# Altium schematic symbol library dungvh03-CERN_Logic.SchLib: 486 symbols (part 11 of 54)
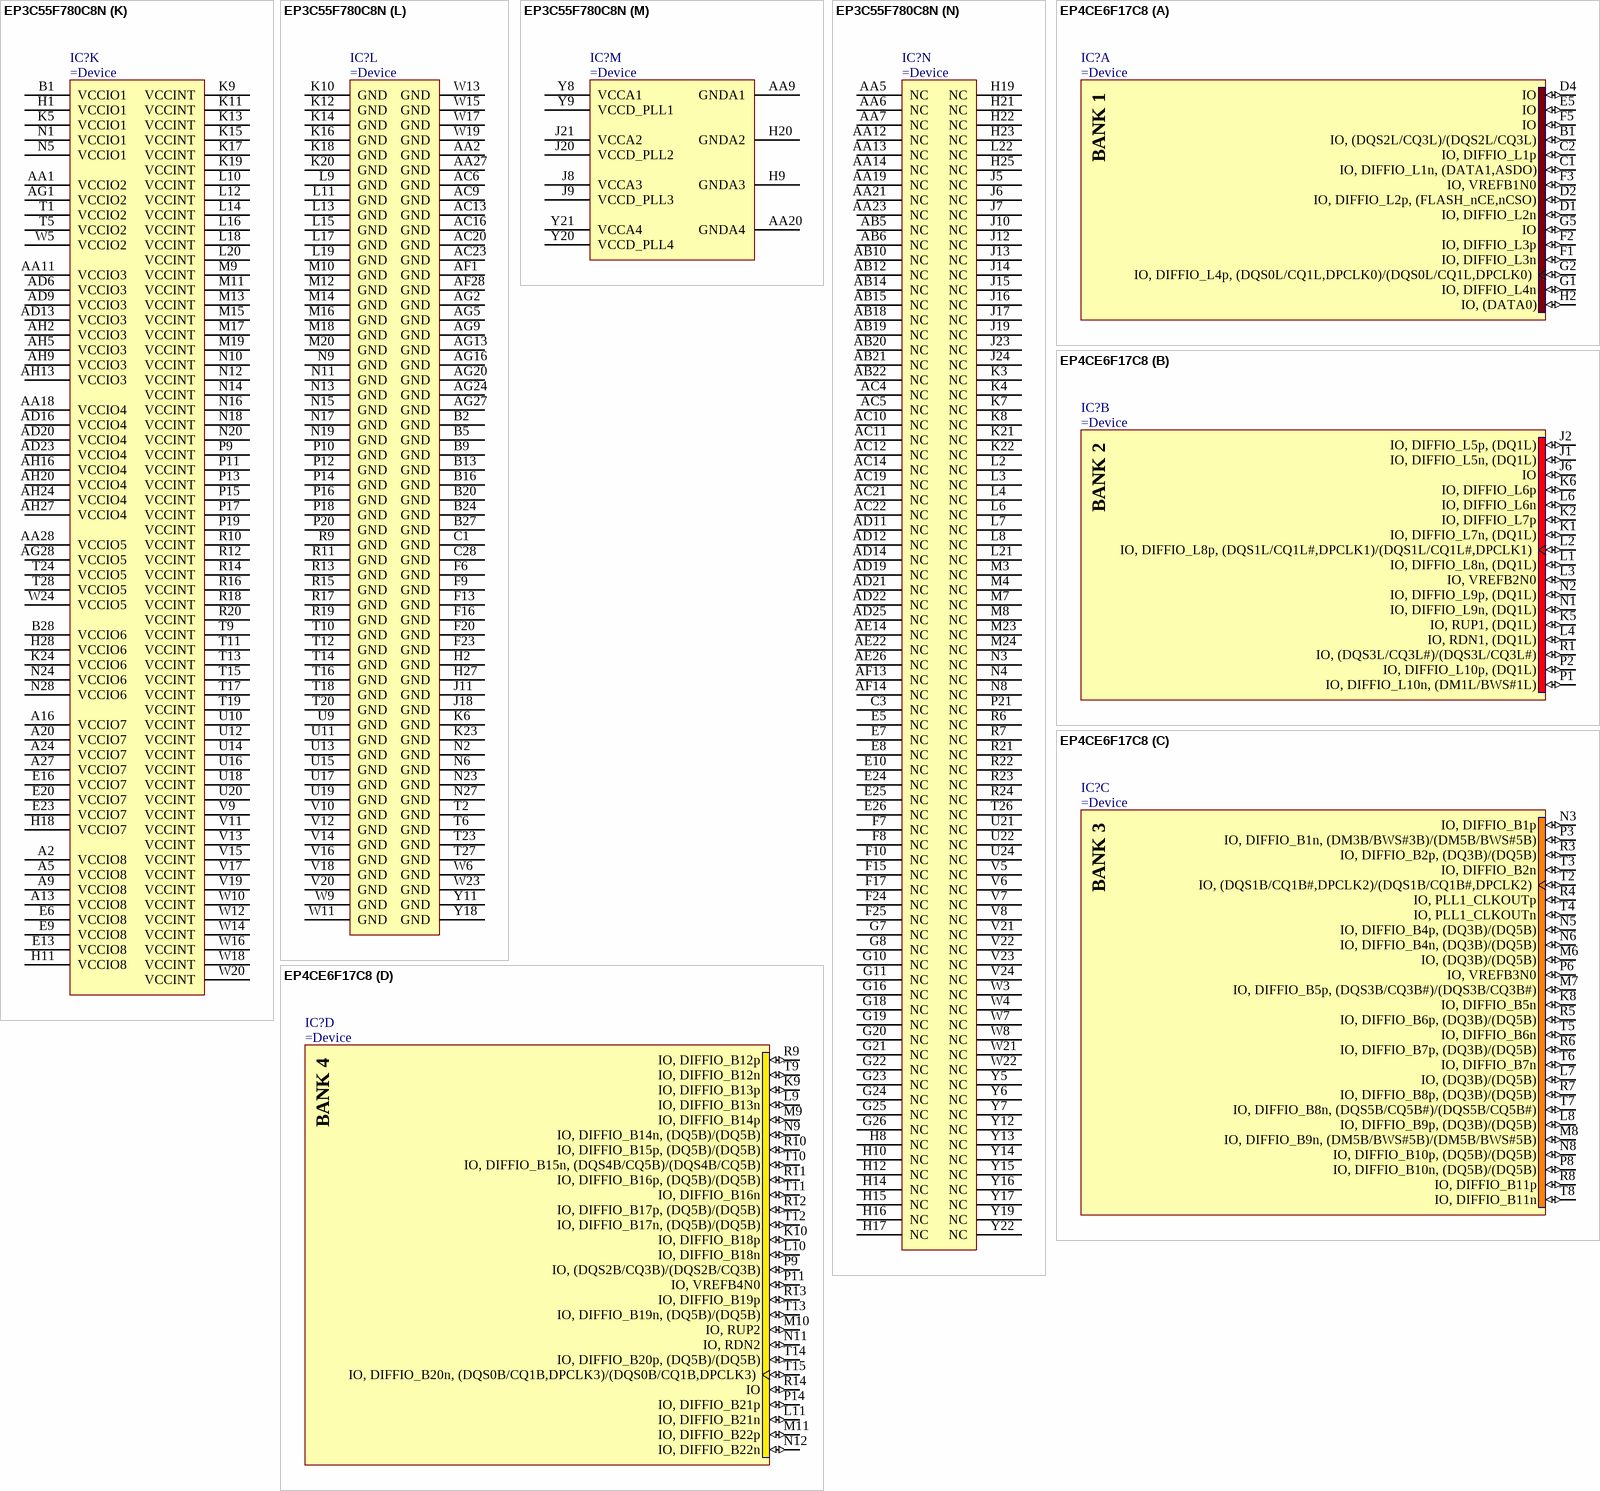
[diagram p271: symbols EP3C55F780C8N to EP4CE6F17C8]

## EP3C55F780C8N
designator IC?
Cyclone III Family FPGA, 55,856 LEs, 377 User I/Os, 780-Pin FBGA, Speed Grade 8, Commercial Grade, Pb-Free
footprint FBGA780-2 (BGA, 780-Leads, Body 29x29mm, Pitch 1mm)
part A pins: C2 IO, DIFFIO_L1n, (DQ2L)/(DQ1L)/(DQ1L) (io), D1 IO, DIFFIO_L2n, (DQ2L)/(DQ1L)/(DQ1L) (io), D2 IO, DIFFIO_L2p, (DQ2L)/(DQ1L)/(DQ1L) (io), D3 IO, DIFFIO_L1p (io), E1 IO, DIFFIO_L8n, _/(DQ1L)/(DQ1L) (io), E2 IO, DIFFIO_L8p, (FLASH_nCE, nCSO) (io), E3 IO, DIFFIO_L4p, (DQS2L/CQ3L,CDPCLK0)/(DQS2L/CQ3L,CDPCLK0)/(DQS2L/CQ3L,CDPCLK0) (io), F1 IO, DIFFIO_L9n, (DQ0L)/(DQ1L)/(DQ1L) (io), F2 IO, DIFFIO_L9p, (DM2L)/(DM1L0/BWS#1L0)/(DM1L0/BWS#1L0) (io), F3 IO, DIFFIO_L4n, (DQ2L)/(DQ1L)/(DQ1L) (io), F4 IO, DIFFIO_L5n, (DATA1, ASDO) (io), F5 IO, DIFFIO_L5p, (DQ2L)/(DQ1L)/(DQ1L) (io), G1 IO, DIFFIO_L11n (io), G2 IO, DIFFIO_L11p, (DQ0L)/(DQ1L)/(DQ1L) (io), G3 IO, DIFFIO_L6n (io), G4 IO, DIFFIO_L6p, (DQ2L)/(DQ1L)/(DQ1L) (io), G5 IO, DIFFIO_L3n, (DQ2L)/(DQ1L)/(DQ1L) (io), G6 IO, DIFFIO_L3p, (nRESET), (DQ2L)/(DQ1L)/(DQ1L) (io), H3 IO, DIFFIO_L7n (io), H4 IO, DIFFIO_L7p (io), H5 IO (io), H6 IO (io), H7 IO, VREFB1N0 (io), J3 IO, DIFFIO_L10n, (DQ0L)/(DQ1L)/(DQ1L) (io), J4 IO, DIFFIO_L10p (io), K1 IO, DIFFIO_L12n, (DQ0L)/(DQ1L)/(DQ1L) (io), K2 IO, DIFFIO_L12p, (DQS0L/CQ1L,DPCLK0)/(DQS0L/CQ1L,DPCLK0)/(DQS0L/CQ1L,DPCLK0) (io), L1 IO, DIFFIO_L13n, (DQ0L)/(DQ1L)/(DQ1L) (io), L5 IO, VREFB1N1 (io), M1 IO, DIFFIO_L14n, (DQ0L)/(DQ1L)/(DQ1L) (io), M2 IO, DIFFIO_L14p (io), M5 IO, DIFFIO_L13p (io), N7 IO, (DATA0) (io), P1 IO, DIFFIO_L15n, (DQ0L)/(DQ1L)/(DQ1L) (io), P2 IO, DIFFIO_L15p (io)
part B pins: AA3 IO, DIFFIO_L31n (io), AA4 IO, DIFFIO_L31p, (DQ3L)/(DQ3L)/(DQ1L) (io), AB1 IO, DIFFIO_L23n (io), AB2 IO, DIFFIO_L23p, (DQS1L/CQ1L#,DPCLK1)/(DQS1L/CQ1L#,DPCLK1)/(DQS1L/CQ1L#,DPCLK1) (io), AB3 IO, (DQ3L)/(DQ3L)/(DQ1L) (io), AB4 IO, DIFFIO_L32n (io), AC1 IO, DIFFIO_L27n, (DQ3L)/(DQ3L)/(DQ1L) (io), AC2 IO, DIFFIO_L27p, (DQ3L)/(DQ3L)/(DQ1L) (io), AC3 IO, DIFFIO_L28p, (DQ3L)/(DQ3L)/(DQ1L) (io), AD1 IO, DIFFIO_L29n (io), AD2 IO, DIFFIO_L29p, (DQ3L)/(DQ3L)/(DQ1L) (io), AD3 IO, DIFFIO_L28n (io), AE1 IO, DIFFIO_L33n (io), AE2 IO, DIFFIO_L32p, (DQ3L)/(DQ3L)/(DQ1L) (io), AE3 IO, (DQS3L/CQ3L#,CDPCLK1)/(DQS3L/CQ3L#,CDPCLK1)/(DQS3L/CQ3L#,CDPCLK1) (io), AF2 IO, DIFFIO_L33p, (DM3L/BWS#3L)/(DM3L1/BWS#3L1)/(DM1L3/BWS#1L3) (io), R1 IO, DIFFIO_L16n, _/(DQ1L)/(DQ1L) (io), R2 IO, DIFFIO_L16p, (DQ0L)/(DQ1L)/(DQ1L) (io), R3 IO, DIFFIO_L18p, (DQ1L)/(DQ3L)/(DQ1L) (io), R4 IO, DIFFIO_L18n, (DQ1L)/(DQ3L)/(DQ1L) (io), R5 IO, (DQ1L)/(DQ3L)/(DQ1L) (io), T3 IO, DIFFIO_L19n (io), T4 IO, DIFFIO_L19p, (DQ1L)/(DQ3L)/(DQ1L) (io), T7 IO, VREFB2N0 (io), T8 IO, VREFB2N1 (io), U1 IO, DIFFIO_L20n, (DQ1L)/(DQ3L)/(DQ1L) (io), U2 IO, DIFFIO_L20p (io), U3 IO, DIFFIO_L17p, (DM0L)/(DM1L1/BWS#1L1)/(DM1L1/BWS#1L1) (io), U4 IO, DIFFIO_L17n (io), U5 IO, DIFFIO_L25n (io), U6 IO, DIFFIO_L25p, (DQ3L)/(DQ3L)/(DQ1L) (io), U7 IO, RUP1 (io), U8 IO, RDN1 (io), V1 IO, DIFFIO_L22n, (DQ1L)/(DQ3L)/(DQ1L) (io), V2 IO, DIFFIO_L22p, (DQ1L)/(DQ3L)/(DQ1L) (io), V3 IO, DIFFIO_L21n (io), V4 IO, DIFFIO_L21p, (DQ1L)/(DQ3L)/(DQ1L) (io), W1 IO, DIFFIO_L24n, (DM1L/BWS#1L)/(DM3L0/BWS#3L0)/(DM1L2/BWS#1L2) (io), W2 IO, DIFFIO_L24p, (DQ1L)/(DQ3L)/(DQ1L) (io), Y3 IO, DIFFIO_L26n (io), Y4 IO, DIFFIO_L26p, (DQ3L)/(DQ3L)/(DQ1L) (io)
part C pins: AA8 IO, DIFFIO_B11p (io), AA10 IO, DIFFIO_B11n, (DQ3B)/(DQ3B)/(DQ5B) (io), AB7 IO, DIFFIO_B10p (io), AB8 IO, DIFFIO_B8n (io), AB9 IO, DIFFIO_B8p, (DM3B/BWS#3B)/(DM3B1/BWS#3B1)/(DM5B3/BWS#5B3) (io), AB11 IO, VREFB3N0 (io), AB13 IO, DIFFIO_B20n (io), AC7 IO, DIFFIO_B6n (io), AC8 IO, DIFFIO_B10n, (DQ3B)/(DQ3B)/(DQ5B) (io), AD4 IO, DIFFIO_B2p (io), AD5 IO, DIFFIO_B1p (io), AD7 IO, (DQS1B/CQ1B#,CDPCLK2)/(DQS1B/CQ1B#,CDPCLK2)/(DQS1B/CQ1B#,CDPCLK2) (io), AD8 IO, DIFFIO_B6p, (DQ1B)/_/_ (io), AD10 IO, (DQ3B)/(DQ3B)/(DQ5B) (io), AE4 IO, DIFFIO_B3p (io), AE5 IO, PLL1_CLKOUTp (io), AE6 IO, DIFFIO_B1n, (DM1B)/_/_ (io), AE7 IO, DIFFIO_B13p (io), AE8 IO, DIFFIO_B14p (io), AE9 IO, (DQ5B)/(DQ3B)/(DQ5B) (io), AE10 IO, DIFFIO_B15p, (DQS3B/CQ3B#,DPCLK2)/(DQS3B/CQ3B#,DPCLK2)/(DQS3B/CQ3B#,DPCLK2) (io), AE11 IO, DIFFIO_B18p, (DQ5B)/(DQ3B)/(DQ5B) (io), AE12 IO, DIFFIO_B17p, (DQ5B)/(DQ3B)/(DQ5B) (io), AE13 IO, DIFFIO_B20p, (DQ5B)/(DQ3B)/(DQ5B) (io), AF3 IO, DIFFIO_B4n (io), AF4 IO, DIFFIO_B2n, (DQ1B)/_/_ (io), AF5 IO, PLL1_CLKOUTn (io), AF6 IO, (DQ1B)/_/_ (io), AF7 IO, DIFFIO_B13n, (DQ3B)/(DQ3B)/(DQ5B) (io), AF8 IO, DIFFIO_B14n, (DM5B/BWS#5B)/(DM3B0/BWS#3B0)/(DM5B2/BWS#5B2) (io), AF9 IO, (DQ3B)/(DQ3B)/(DQ5B) (io), AF10 IO, DIFFIO_B15n, (DQ5B)/(DQ3B)/(DQ5B) (io), AF11 IO, DIFFIO_B18n, (DQS5B/CQ5B#,DPCLK3)/(DQS5B/CQ5B#,DPCLK3)/(DQS5B/CQ5B#,DPCLK3) (io), AF12 IO, DIFFIO_B17n (io), AG3 IO, DIFFIO_B3n, (DQ1B)/_/_ (io), AG4 IO, DIFFIO_B5p (io), AG6 IO, DIFFIO_B7p, (DQ1B)/_/_ (io), AG7 IO, DIFFIO_B9p, (DQ3B)/(DQ3B)/(DQ5B) (io), AG8 IO, DIFFIO_B12p, (DQ3B)/(DQ3B)/(DQ5B) (io), AG10 IO, DIFFIO_B16p, (DQ5B)/(DQ3B)/(DQ5B) (io), AG11 IO, DIFFIO_B19p, (DQ5B)/(DQ3B)/(DQ5B) (io), AG12 IO, DIFFIO_B21p, (DQ5B)/(DQ3B)/(DQ5B) (io), AH3 IO, DIFFIO_B4p, (DQ1B)/_/_ (io), AH4 IO, DIFFIO_B5n, (DQ1B)/_/_ (io), AH6 IO, DIFFIO_B7n, (DQ1B)/_/_ (io), AH7 IO, DIFFIO_B9n, (DQ3B)/(DQ3B)/(DQ5B) (io), AH8 IO, DIFFIO_B12n, (DQ3B)/(DQ3B)/(DQ5B) (io), AH10 IO, DIFFIO_B16n (io), AH11 IO, DIFFIO_B19n, (DQ5B)/(DQ3B)/(DQ5B) (io), AH12 IO, DIFFIO_B21n (io), Y10 IO, VREFB3N1 (io)
part D pins: AA15 IO, VREFB4N1 (io), AA16 IO, DIFFIO_B25p (io), AA17 IO, RUP2 (io), AB16 IO, DIFFIO_B25n, (DQ4B)/(DQ5B)/(DQ5B) (io), AB17 IO, RDN2 (io), AC15 IO, DIFFIO_B22p, (DM4B)/(DM5B1/BWS#5B1)/(DM5B1/BWS#5B1) (io), AC17 IO, DIFFIO_B29p (io), AC18 IO, VREFB4N0 (io), AD15 IO, DIFFIO_B22n (io), AD17 IO, DIFFIO_B29n, (DQ2B)/(DQ5B)/(DQ5B) (io), AD18 IO, (DQ0B)/_/_ (io), AD24 IO, DIFFIO_B40n (io), AE15 IO, DIFFIO_B23p, _/(DQ5B)/(DQ5B) (io), AE16 IO (io), AE17 IO, DIFFIO_B26p, (DQ4B)/(DQ5B)/(DQ5B) (io), AE18 IO, DIFFIO_B31p, (DQS2B/CQ3B,DPCLK5)/(DQS2B/CQ3B,DPCLK5)/(DQS2B/CQ3B,DPCLK5) (io), AE19 IO, DIFFIO_B34p, (DQ2B)/(DQ5B)/(DQ5B) (io), AE20 IO, DIFFIO_B36p (io), AE21 IO, DIFFIO_B37p, (DQ0B)/_/_ (io), AE23 IO, PLL4_CLKOUTp (io), AE24 IO, DIFFIO_B40p, (DQ0B)/_/_ (io), AE25 IO, DIFFIO_B38p, (DQ0B)/_/_ (io), AF15 IO, DIFFIO_B23n, (DQ4B)/(DQ5B)/(DQ5B) (io), AF16 IO, (DQ4B)/(DQ5B)/(DQ5B) (io), AF17 IO, DIFFIO_B26n, (DQS4B/CQ5B,DPCLK4)/(DQS4B/CQ5B,DPCLK4)/(DQS4B/CQ5B,DPCLK4) (io), AF18 IO, DIFFIO_B31n (io), AF19 IO, DIFFIO_B34n (io), AF20 IO, DIFFIO_B36n, (DQ0B)/_/_ (io), AF21 IO, DIFFIO_B37n (io), AF22 IO, (DQ0B)/_/_ (io), AF23 IO, PLL4_CLKOUTn (io), AF24 IO, DIFFIO_B35p, (DQ2B)/(DQ5B)/(DQ5B) (io), AF25 IO, DIFFIO_B35n, (DM0B)/(DQ5B)/(DQ5B) (io), AF26 IO, DIFFIO_B38n, (DQS0B/CQ1B,CDPCLK3)/(DQS0B/CQ1B,CDPCLK3)/(DQS0B/CQ1B,CDPCLK3) (io), AG17 IO, DIFFIO_B24p, (DQ4B)/(DQ5B)/(DQ5B) (io), AG18 IO, DIFFIO_B27p, (DQ4B)/(DQ5B)/(DQ5B) (io), AG19 IO, DIFFIO_B28p (io), AG21 IO, DIFFIO_B30p, (DQ2B)/(DQ5B)/(DQ5B) (io), AG22 IO, DIFFIO_B32p, (DQ2B)/(DQ5B)/(DQ5B) (io), AG23 IO, DIFFIO_B33p (io), AG25 IO, DIFFIO_B39p (io), AG26 IO, DIFFIO_B41p, (DQ0B)/_/_ (io), AH17 IO, DIFFIO_B24n, (DQ4B)/(DQ5B)/(DQ5B) (io), AH18 IO, DIFFIO_B27n, (DQ4B)/(DQ5B)/(DQ5B) (io), AH19 IO, DIFFIO_B28n, (DM2B)/(DM5B0/BWS#5B0)/(DM5B0/BWS#5B0) (io), AH21 IO, DIFFIO_B30n, (DQ2B)/(DQ5B)/(DQ5B) (io), AH22 IO, DIFFIO_B32n, (DQ2B)/(DQ5B)/(DQ5B) (io), AH23 IO, DIFFIO_B33n, (DQ2B)/(DQ5B)/(DQ5B) (io), AH25 IO, DIFFIO_B39n, (DQ0B)/_/_ (io), AH26 IO, DIFFIO_B41n (io)
part E pins: AA22 IO, RUP3 (io), AA24 IO, VREFB5N1 (io), AA25 IO, DIFFIO_R29p (io), AA26 IO, DIFFIO_R29n, (DQ3R)/(DQ3R)/(DQ1R) (io), AB23 IO, RDN3 (io), AB24 IO, (DM3R/BWS#3R)/(DM3R1/BWS#3R1)/(DM1R3/BWS#1R3) (io), AB25 IO, DIFFIO_R30p (io), AB26 IO, DIFFIO_R30n, (DQ3R)/(DQ3R)/(DQ1R) (io), AB27 IO, DIFFIO_R28p, (DQ1R)/(DQ3R)/(DQ1R) (io), AB28 IO, DIFFIO_R28n, (DM1R/BWS#1R)/(DM3R0/BWS#3R0)/(DM1R2/BWS#1R2) (io), AC24 IO, DIFFIO_R36p (io), AC25 IO, DIFFIO_R36n (io), AC26 IO, DIFFIO_R35p (io), AC27 IO, DIFFIO_R31p, (DQ3R)/(DQ3R)/(DQ1R) (io), AC28 IO, DIFFIO_R31n, (DQ3R)/(DQ3R)/(DQ1R) (io), AD26 IO, DIFFIO_R35n, (DQ3R)/(DQ3R)/(DQ1R) (io), AD27 IO, DIFFIO_R33p, (DQ3R)/(DQ3R)/(DQ1R) (io), AD28 IO, DIFFIO_R33n, (DQ3R)/(DQ3R)/(DQ1R) (io), AE27 IO, DIFFIO_R34p (io), AE28 IO, DIFFIO_R34n, (DQ3R)/(DQ3R)/(DQ1R) (io), AF27 IO, (DQS3R/CQ3R#,CDPCLK4)/(DQS3R/CQ3R#,CDPCLK4)/(DQS3R/CQ3R#,CDPCLK4) (io), R25 IO, DIFFIO_R19p (io), R26 IO, DIFFIO_R19n, (DQ1R)/(DQ3R)/(DQ1R) (io), R27 IO, DIFFIO_R18p, _/(DQ1R)/(DQ1R) (io), R28 IO, DIFFIO_R18n, (DM0R)/(DM1R1/BWS#1R1)/(DM1R1/BWS#1R1) (io), T21 IO, DIFFIO_R20p, (DEV_CLRn) (io), T22 IO, DIFFIO_R20n, (DEV_OE) (io), T25 IO, DIFFIO_R21p, (DQS1R/CQ1R#,DPCLK6)/(DQS1R/CQ1R#,DPCLK6)/(DQS1R/CQ1R#,DPCLK6) (io), U23 IO, VREFB5N0 (io), U25 IO, DIFFIO_R22p (io), U26 IO, DIFFIO_R22n (io), U27 IO (io), U28 IO, DIFFIO_R21n, (DQ1R)/(DQ3R)/(DQ1R) (io), V25 IO, DIFFIO_R23p, (DQ1R)/(DQ3R)/(DQ1R) (io), V26 IO, DIFFIO_R23n (io), V27 IO, DIFFIO_R24p (io), V28 IO, DIFFIO_R24n, (DQ1R)/(DQ3R)/(DQ1R) (io), W25 IO, DIFFIO_R26p (io), W26 IO, DIFFIO_R26n, (DQ1R)/(DQ3R)/(DQ1R) (io), W27 IO, DIFFIO_R25n, (DQ1R)/(DQ3R)/(DQ1R) (io), W28 IO, DIFFIO_R25p, (DQ1R)/(DQ3R)/(DQ1R) (io), Y23 IO, DIFFIO_R32p (io), Y24 IO, DIFFIO_R32n, (DQ3R)/(DQ3R)/(DQ1R) (io), Y25 IO, DIFFIO_R27p (io), Y26 IO, DIFFIO_R27n, (DQ1R)/(DQ3R)/(DQ1R) (io)
part F pins: C27 IO, DIFFIO_R2n, (PADD20), (DQS2R/CQ3R,CDPCLK5)/(DQS2R/CQ3R,CDPCLK5)/(DQS2R/CQ3R,CDPCLK5) (io), D26 IO, DIFFIO_R2p (io), D27 IO, DIFFIO_R3p, (PADD21), (DQ2R)/(DQ1R)/(DQ1R) (io), D28 IO, DIFFIO_R3n, (PADD22) (io), E27 IO, DIFFIO_R5p, (DQ2R)/(DQ1R)/(DQ1R) (io), E28 IO, DIFFIO_R5n, (PADD23), (DQ2R)/(DQ1R)/(DQ1R) (io), F26 IO, DIFFIO_R4p, (DQ2R)/(DQ1R)/(DQ1R) (io), F27 IO, DIFFIO_R6p (io), F28 IO, DIFFIO_R6n, (nAVD), (DQ2R)/(DQ1R)/(DQ1R) (io), G27 IO, DIFFIO_R8p, (nOE), (DQ2R)/(DQ1R)/(DQ1R) (io), G28 IO, DIFFIO_R8n, (nWE), (DQ2R)/(DQ1R)/(DQ1R) (io), H24 IO, DIFFIO_R1n (io), H26 IO, DIFFIO_R4n (io), J22 IO, DIFFIO_R1p (io), J25 IO, DIFFIO_R9p, _/(DQ1R)/(DQ1R) (io), J26 IO, DIFFIO_R9n (io), K25 IO, DIFFIO_R7p (io), K26 IO, DIFFIO_R7n, (DQ2R)/(DQ1R)/(DQ1R) (io), K27 IO, DIFFIO_R10p, (DQ0R)/(DQ1R)/(DQ1R) (io), K28 IO, DIFFIO_R10n, (DQ0R)/(DQ1R)/(DQ1R) (io), L23 IO, DIFFIO_R11p (io), L24 IO, DIFFIO_R11n, (DQ0R)/(DQ1R)/(DQ1R) (io), L25 IO (io), L26 IO, (DM2R)/(DM1R0/BWS#1R0)/(DM1R0/BWS#1R0) (io), L27 IO, DIFFIO_R12p, (DQ0R)/(DQ1R)/(DQ1R) (io), L28 IO, DIFFIO_R12n, (DQ0R)/(DQ1R)/(DQ1R) (io), M21 IO, VREFB6N0 (io), M25 IO, DIFFIO_R13p (io), M26 IO, DIFFIO_R13n, (DQ0R)/(DQ1R)/(DQ1R) (io), M27 IO, DIFFIO_R14p, (DQ0R)/(DQ1R)/(DQ1R) (io), M28 IO, DIFFIO_R14n, (DQ0R)/(DQ1R)/(DQ1R) (io), N21 IO, VREFB6N1 (io), N25 IO, DIFFIO_R15p (io), N26 IO, DIFFIO_R15n, (DQS0R/CQ1R,DPCLK7)/(DQS0R/CQ1R,DPCLK7)/(DQS0R/CQ1R,DPCLK7) (io), P25 IO, DIFFIO_R17p, (CRC_ERROR) (io), P26 IO, DIFFIO_R17n, (INIT_DONE) (io), P27 IO, DIFFIO_R16p, (CLKUSR) (io), P28 IO, DIFFIO_R16n, (nCEO) (io)
part G pins: A17 IO, DIFFIO_T24n, (PADD11), _/(DQ5T)/(DQ5T) (io), A18 IO, DIFFIO_T26n, (PADD7) (io), A19 IO, DIFFIO_T27n, (PADD5), (DQ4T)/(DQ5T)/(DQ5T) (io), A21 IO, DIFFIO_T33n, (DQ2T)/(DQ5T)/(DQ5T) (io), A22 IO, DIFFIO_T34n, (DQ2T)/(DQ5T)/(DQ5T) (io), A23 IO, DIFFIO_T37n, (DQ0T)/_/_ (io), A25 IO, DIFFIO_T40p, (DQS0T/CQ1T,CDPCLK6)/(DQS0T/CQ1T,CDPCLK6)/(DQS0T/CQ1T,CDPCLK6) (io), A26 IO, DIFFIO_T40n, (DQ0T)/_/_ (io), B17 IO, DIFFIO_T24p, (PADD12), (DQS4T/CQ5T,DPCLK9)/(DQS4T/CQ5T,DPCLK9)/(DQS4T/CQ5T,DPCLK9) (io), B18 IO, DIFFIO_T26p, (PADD8), (DQ4T)/(DQ5T)/(DQ5T) (io), B19 IO, DIFFIO_T27p, (PADD6), (DQ4T)/(DQ5T)/(DQ5T) (io), B21 IO, DIFFIO_T33p, (DQ2T)/(DQ5T)/(DQ5T) (io), B22 IO, DIFFIO_T34p, (PADD0) (io), B23 IO, DIFFIO_T37p, (DM0T)/_/_ (io), B25 IO, (DQ0T)/_/_ (io), B26 IO, DIFFIO_T42p, (DQ0T)/_/_ (io), C15 IO, DIFFIO_T23n, (PADD13) (io), C16 IO, DIFFIO_T25n, (PADD9), (DQ4T)/(DQ5T)/(DQ5T) (io), C17 IO, DIFFIO_T28n, (PADD3), (DQ4T)/(DQ5T)/(DQ5T) (io), C18 IO, DIFFIO_T31n, (PADD1), _/(DQ5T)/(DQ5T) (io), C19 IO, DIFFIO_T29n, (DQ4T)/(DQ5T)/(DQ5T) (io), C20 IO, DIFFIO_T30n, (DM2T)/(DM5T0/BWS#5T0)/(DM5T0/BWS#5T0) (io), C21 IO, (DQ2T)/(DQ5T)/(DQ5T) (io), C22 IO, DIFFIO_T35n, (DQ2T)/(DQ5T)/(DQ5T) (io), C23 IO, PLL2_CLKOUTn (io), C24 IO, DIFFIO_T36n, (DQ2T)/(DQ5T)/(DQ5T) (io), C25 IO, DIFFIO_T38p, (DQ0T)/_/_ (io), C26 IO, DIFFIO_T42n (io), D15 IO, DIFFIO_T23p, (PADD14), (DQ5T)/(DQ3T)/(DQ5T) (io), D16 IO, DIFFIO_T25p, (PADD10) (io), D17 IO, DIFFIO_T28p, (PADD4), (DQS2T/CQ3T,DPCLK8)/(DQS2T/CQ3T,DPCLK8)/(DQS2T/CQ3T,DPCLK8) (io), D18 IO, DIFFIO_T31p, (PADD2) (io), D19 IO, DIFFIO_T29p (io), D20 IO, DIFFIO_T30p, (DQ4T)/(DQ5T)/(DQ5T) (io), D21 IO, DIFFIO_T35p, (DQ2T)/(DQ5T)/(DQ5T) (io), D22 IO, DIFFIO_T41n, (DQ0T)/_/_ (io), D23 IO, PLL2_CLKOUTp (io), D24 IO, DIFFIO_T36p (io), D25 IO, DIFFIO_T38n (io), E15 IO, (DM4T)/(DM5T1/BWS#5T1)/(DM5T1/BWS#5T1) (io), E17 IO, (DQ4T)/(DQ5T)/(DQ5T) (io), E18 IO, DIFFIO_T32n, (DQ2T)/(DQ5T)/(DQ5T) (io), E19 IO, RDN4 (io), E21 IO, DIFFIO_T39n (io), E22 IO, DIFFIO_T41p, (DQ0T)/_/_ (io), F18 IO, DIFFIO_T32p (io), F19 IO, RUP4 (io), F21 IO, DIFFIO_T39p, (DQ0T)/_/_ (io), F22 IO, VREFB7N0 (io), G15 IO (io), G17 IO, VREFB7N1 (io)
part H pins: A3 IO, DIFFIO_T2p, (DQ1T)/_/_ (io), A4 IO, DIFFIO_T3n, (DQ1T)/_/_ (io), A6 IO, DIFFIO_T10n (io), A7 IO, DIFFIO_T11n, (DQ3T)/(DQ3T)/(DQ5T) (io), A8 IO, DIFFIO_T7n, (DATA9), (DM3T/BWS#3T)/(DM3T1/BWS#3T1)/(DM5T3/BWS#5T3) (io), A10 IO, DIFFIO_T16n, (PADD18) (io), A11 IO, DIFFIO_T17n, (DATA2), (DQ5T)/(DQ3T)/(DQ5T) (io), A12 IO, DIFFIO_T19n, (DQ5T)/(DQ3T)/(DQ5T) (io), B3 IO, DIFFIO_T2n (io), B4 IO, DIFFIO_T3p, (DATA12), (DQS1T/CQ1T#,CDPCLK7)/(DQS1T/CQ1T#,CDPCLK7)/(DQS1T/CQ1T#,CDPCLK7) (io), B6 IO, DIFFIO_T10p, (DATA6), (DQ3T)/(DQ3T)/(DQ5T) (io), B7 IO, DIFFIO_T11p, (DATA5), (DQ3T)/(DQ3T)/(DQ5T) (io), B8 IO, DIFFIO_T7p (io), B10 IO, DIFFIO_T16p, (DATA4), (DM5T/BWS#5T)/(DM3T0/BWS#3T0)/(DM5T2/BWS#5T2) (io), B11 IO, DIFFIO_T17p, (DATA3), (DQ5T)/(DQ3T)/(DQ5T) (io), B12 IO, DIFFIO_T19p (io), C4 IO, DIFFIO_T1n, (DQ1T)/_/_ (io), C5 IO, PLL3_CLKOUTn (io), C6 IO, (DQ1T)/_/_ (io), C7 IO, DIFFIO_T5n, (DATA10), (DQ1T)/_/_ (io), C8 IO, DIFFIO_T6n, (DQ1T)/_/_ (io), C9 IO, DIFFIO_T8n, (DQ3T)/(DQ3T)/(DQ5T) (io), C10 IO, DIFFIO_T14n, (DQ3T)/(DQ3T)/(DQ5T) (io), C11 IO, DIFFIO_T9n, (DATA7), (DQ3T)/(DQ3T)/(DQ5T) (io), C12 IO, DIFFIO_T20n, (PADD16), (DQ5T)/(DQ3T)/(DQ5T) (io), C13 IO, DIFFIO_T22n, (DQ5T)/(DQ3T)/(DQ5T) (io), C14 IO, DIFFIO_T21n, (DQ5T)/(DQ3T)/(DQ5T) (io), D4 IO, DIFFIO_T1p, (DM1T)/_/_ (io), D5 IO, PLL3_CLKOUTp (io), D6 IO, DIFFIO_T4n, (DQ1T)/_/_ (io), D7 IO, DIFFIO_T5p, (DATA11) (io), D8 IO, DIFFIO_T6p, (DQ1T)/_/_ (io), D9 IO, DIFFIO_T8p, (DATA8) (io), D10 IO, DIFFIO_T14p, (DQ3T)/(DQ3T)/(DQ5T) (io), D11 IO, DIFFIO_T9p (io), D12 IO, DIFFIO_T20p, (PADD17), (DQS5T/CQ5T#,DPCLK10)/(DQS5T/CQ5T#,DPCLK10)/(DQS5T/CQ5T#,DPCLK10) (io), D13 IO, DIFFIO_T22p, (DQ5T)/(DQ3T)/(DQ5T) (io), D14 IO, DIFFIO_T21p, (PADD15) (io), E4 IO (io), E11 IO, DIFFIO_T12n, (DQ3T)/(DQ3T)/(DQ5T) (io), E12 IO, DIFFIO_T13n, (DATA14), (DQS3T/CQ3T#,DPCLK11)/(DQS3T/CQ3T#,DPCLK11)/(DQS3T/CQ3T#,DPCLK11) (io), E14 IO, DIFFIO_T18p, (DQ5T)/(DQ3T)/(DQ5T) (io), F11 IO, DIFFIO_T12p (io), F12 IO, DIFFIO_T13p, (DATA13) (io), F14 IO, DIFFIO_T18n (io), G9 IO, DIFFIO_T4p (io), G12 IO, VREFB8N1 (io), G13 IO, DIFFIO_T15n, (PADD19) (io), G14 IO, VREFB8N0 (io), H13 IO, DIFFIO_T15p, (DATA15), (DQ3T)/(DQ3T)/(DQ5T) (io)
part I pins: A14 CLK10, DIFFCLK_4n (in), A15 CLK8, DIFFCLK_5n (in), AG14 CLK15, DIFFCLK_6p (in), AG15 CLK13, DIFFCLK_7p (in), AH14 CLK14, DIFFCLK_6n (in), AH15 CLK12, DIFFCLK_7n (in), B14 CLK11, DIFFCLK_4p (in), B15 CLK9, DIFFCLK_5p (in), J1 CLK1, DIFFCLK_0n (in), J2 CLK0, DIFFCLK_0p (in), J27 CLK4, DIFFCLK_2p (in), J28 CLK5, DIFFCLK_2n (in), Y1 CLK3, DIFFCLK_1n (in), Y2 CLK2, DIFFCLK_1p (in), Y27 CLK6, DIFFCLK_3p (in), Y28 CLK7, DIFFCLK_3n (in)
part J pins: M6 nSTATUS (io), M22 MSEL2 (in), N22 MSEL0 (in), P3 DCLK (io), P4 nCONFIG (in), P5 TCK (in), P6 TDO (out), P7 TDI (in), P8 TMS (in), P22 MSEL3 (in), P23 MSEL1 (in), P24 CONF_DONE (io), R8 nCE (in)
part K pins: A2 VCCIO8 (power), A5 VCCIO8 (power), A9 VCCIO8 (power), A13 VCCIO8 (power), A16 VCCIO7 (power), A20 VCCIO7 (power), A24 VCCIO7 (power), A27 VCCIO7 (power), AA1 VCCIO2 (power), AA11 VCCIO3 (power), AA18 VCCIO4 (power), AA28 VCCIO5 (power), AD6 VCCIO3 (power), AD9 VCCIO3 (power), AD13 VCCIO3 (power), AD16 VCCIO4 (power), AD20 VCCIO4 (power), AD23 VCCIO4 (power), AG1 VCCIO2 (power), AG28 VCCIO5 (power), AH2 VCCIO3 (power), AH5 VCCIO3 (power), AH9 VCCIO3 (power), AH13 VCCIO3 (power), AH16 VCCIO4 (power), AH20 VCCIO4 (power), AH24 VCCIO4 (power), AH27 VCCIO4 (power), B1 VCCIO1 (power), B28 VCCIO6 (power), E6 VCCIO8 (power), E9 VCCIO8 (power), E13 VCCIO8 (power), E16 VCCIO7 (power), E20 VCCIO7 (power), E23 VCCIO7 (power), H1 VCCIO1 (power), H11 VCCIO8 (power), H18 VCCIO7 (power), H28 VCCIO6 (power), K5 VCCIO1 (power), K9 VCCINT (power), K11 VCCINT (power), K13 VCCINT (power), K15 VCCINT (power), K17 VCCINT (power), K19 VCCINT (power), K24 VCCIO6 (power), L10 VCCINT (power), L12 VCCINT (power), L14 VCCINT (power), L16 VCCINT (power), L18 VCCINT (power), L20 VCCINT (power), M9 VCCINT (power), M11 VCCINT (power), M13 VCCINT (power), M15 VCCINT (power), M17 VCCINT (power), M19 VCCINT (power), N1 VCCIO1 (power), N5 VCCIO1 (power), N10 VCCINT (power), N12 VCCINT (power), N14 VCCINT (power), N16 VCCINT (power), N18 VCCINT (power), N20 VCCINT (power), N24 VCCIO6 (power), N28 VCCIO6 (power), P9 VCCINT (power), P11 VCCINT (power), P13 VCCINT (power), P15 VCCINT (power), P17 VCCINT (power), P19 VCCINT (power), R10 VCCINT (power), R12 VCCINT (power), R14 VCCINT (power), R16 VCCINT (power), R18 VCCINT (power), R20 VCCINT (power), T1 VCCIO2 (power), T5 VCCIO2 (power), T9 VCCINT (power), T11 VCCINT (power), T13 VCCINT (power), T15 VCCINT (power), T17 VCCINT (power), T19 VCCINT (power), T24 VCCIO5 (power), T28 VCCIO5 (power), U10 VCCINT (power), U12 VCCINT (power), U14 VCCINT (power), U16 VCCINT (power), U18 VCCINT (power), U20 VCCINT (power), V9 VCCINT (power), V11 VCCINT (power), V13 VCCINT (power), V15 VCCINT (power), V17 VCCINT (power), V19 VCCINT (power), W5 VCCIO2 (power), W10 VCCINT (power), W12 VCCINT (power), W14 VCCINT (power), W16 VCCINT (power), W18 VCCINT (power), W20 VCCINT (power), W24 VCCIO5 (power)
part L pins: AA2 GND (power), AA27 GND (power), AC6 GND (power), AC9 GND (power), AC13 GND (power), AC16 GND (power), AC20 GND (power), AC23 GND (power), AF1 GND (power), AF28 GND (power), AG2 GND (power), AG5 GND (power), AG9 GND (power), AG13 GND (power), AG16 GND (power), AG20 GND (power), AG24 GND (power), AG27 GND (power), B2 GND (power), B5 GND (power), B9 GND (power), B13 GND (power), B16 GND (power), B20 GND (power), B24 GND (power), B27 GND (power), C1 GND (power), C28 GND (power), F6 GND (power), F9 GND (power), F13 GND (power), F16 GND (power), F20 GND (power), F23 GND (power), H2 GND (power), H27 GND (power), J11 GND (power), J18 GND (power), K6 GND (power), K10 GND (power), K12 GND (power), K14 GND (power), K16 GND (power), K18 GND (power), K20 GND (power), K23 GND (power), L9 GND (power), L11 GND (power), L13 GND (power), L15 GND (power), L17 GND (power), L19 GND (power), M10 GND (power), M12 GND (power), M14 GND (power), M16 GND (power), M18 GND (power), M20 GND (power), N2 GND (power), N6 GND (power), N9 GND (power), N11 GND (power), N13 GND (power), N15 GND (power), N17 GND (power), N19 GND (power), N23 GND (power), N27 GND (power), P10 GND (power), P12 GND (power), P14 GND (power), P16 GND (power), P18 GND (power), P20 GND (power), R9 GND (power), R11 GND (power), R13 GND (power), R15 GND (power), R17 GND (power), R19 GND (power), T2 GND (power), T6 GND (power), T10 GND (power), T12 GND (power), T14 GND (power), T16 GND (power), T18 GND (power), T20 GND (power), T23 GND (power), T27 GND (power), U9 GND (power), U11 GND (power), U13 GND (power), U15 GND (power), U17 GND (power), U19 GND (power), V10 GND (power), V12 GND (power), V14 GND (power), V16 GND (power), V18 GND (power), V20 GND (power), W6 GND (power), W9 GND (power), W11 GND (power), W13 GND (power), W15 GND (power), W17 GND (power), W19 GND (power), W23 GND (power), Y11 GND (power), Y18 GND (power)
part M pins: AA9 GNDA1 (power), AA20 GNDA4 (power), H9 GNDA3 (power), H20 GNDA2 (power), J8 VCCA3 (power), J9 VCCD_PLL3 (power), J20 VCCD_PLL2 (power), J21 VCCA2 (power), Y8 VCCA1 (power), Y9 VCCD_PLL1 (power), Y20 VCCD_PLL4 (power), Y21 VCCA4 (power)
part N pins: AA5 NC, AA6 NC, AA7 NC, AA12 NC, AA13 NC, AA14 NC, AA19 NC, AA21 NC, AA23 NC, AB5 NC, AB6 NC, AB10 NC, AB12 NC, AB14 NC, AB15 NC, AB18 NC, AB19 NC, AB20 NC, AB21 NC, AB22 NC, AC4 NC, AC5 NC, AC10 NC, AC11 NC, AC12 NC, AC14 NC, AC19 NC, AC21 NC, AC22 NC, AD11 NC, AD12 NC, AD14 NC, AD19 NC, AD21 NC, AD22 NC, AD25 NC, AE14 NC, AE22 NC, AE26 NC, AF13 NC, AF14 NC, C3 NC, E5 NC, E7 NC, E8 NC, E10 NC, E24 NC, E25 NC, E26 NC, F7 NC, F8 NC, F10 NC, F15 NC, F17 NC, F24 NC, F25 NC, G7 NC, G8 NC, G10 NC, G11 NC, G16 NC, G18 NC, G19 NC, G20 NC, G21 NC, G22 NC, G23 NC, G24 NC, G25 NC, G26 NC, H8 NC, H10 NC, H12 NC, H14 NC, H15 NC, H16 NC, H17 NC, H19 NC, H21 NC, H22 NC, H23 NC, H25 NC, J5 NC, J6 NC, J7 NC, J10 NC, J12 NC, J13 NC, J14 NC, J15 NC, J16 NC, J17 NC, J19 NC, J23 NC, J24 NC, K3 NC, K4 NC, K7 NC, K8 NC, K21 NC, K22 NC, L2 NC, L3 NC, L4 NC, L6 NC, L7 NC, L8 NC, L21 NC, L22 NC, M3 NC, M4 NC, M7 NC, M8 NC, M23 NC, M24 NC, N3 NC, N4 NC, N8 NC, P21 NC, R6 NC, R7 NC, R21 NC, R22 NC, R23 NC, R24 NC, T26 NC, U21 NC, U22 NC, U24 NC, V5 NC, V6 NC, V7 NC, V8 NC, V21 NC, V22 NC, V23 NC, V24 NC, W3 NC, W4 NC, W7 NC, W8 NC, W21 NC, W22 NC, Y5 NC, Y6 NC, Y7 NC, Y12 NC, Y13 NC, Y14 NC, Y15 NC, Y16 NC, Y17 NC, Y19 NC, Y22 NC
part A text: BANK 1
part B text: BANK 2
part C text: BANK 3
part D text: BANK 4
part E text: BANK 5
part F text: BANK 6
part G text: BANK 7
part H text: BANK 8

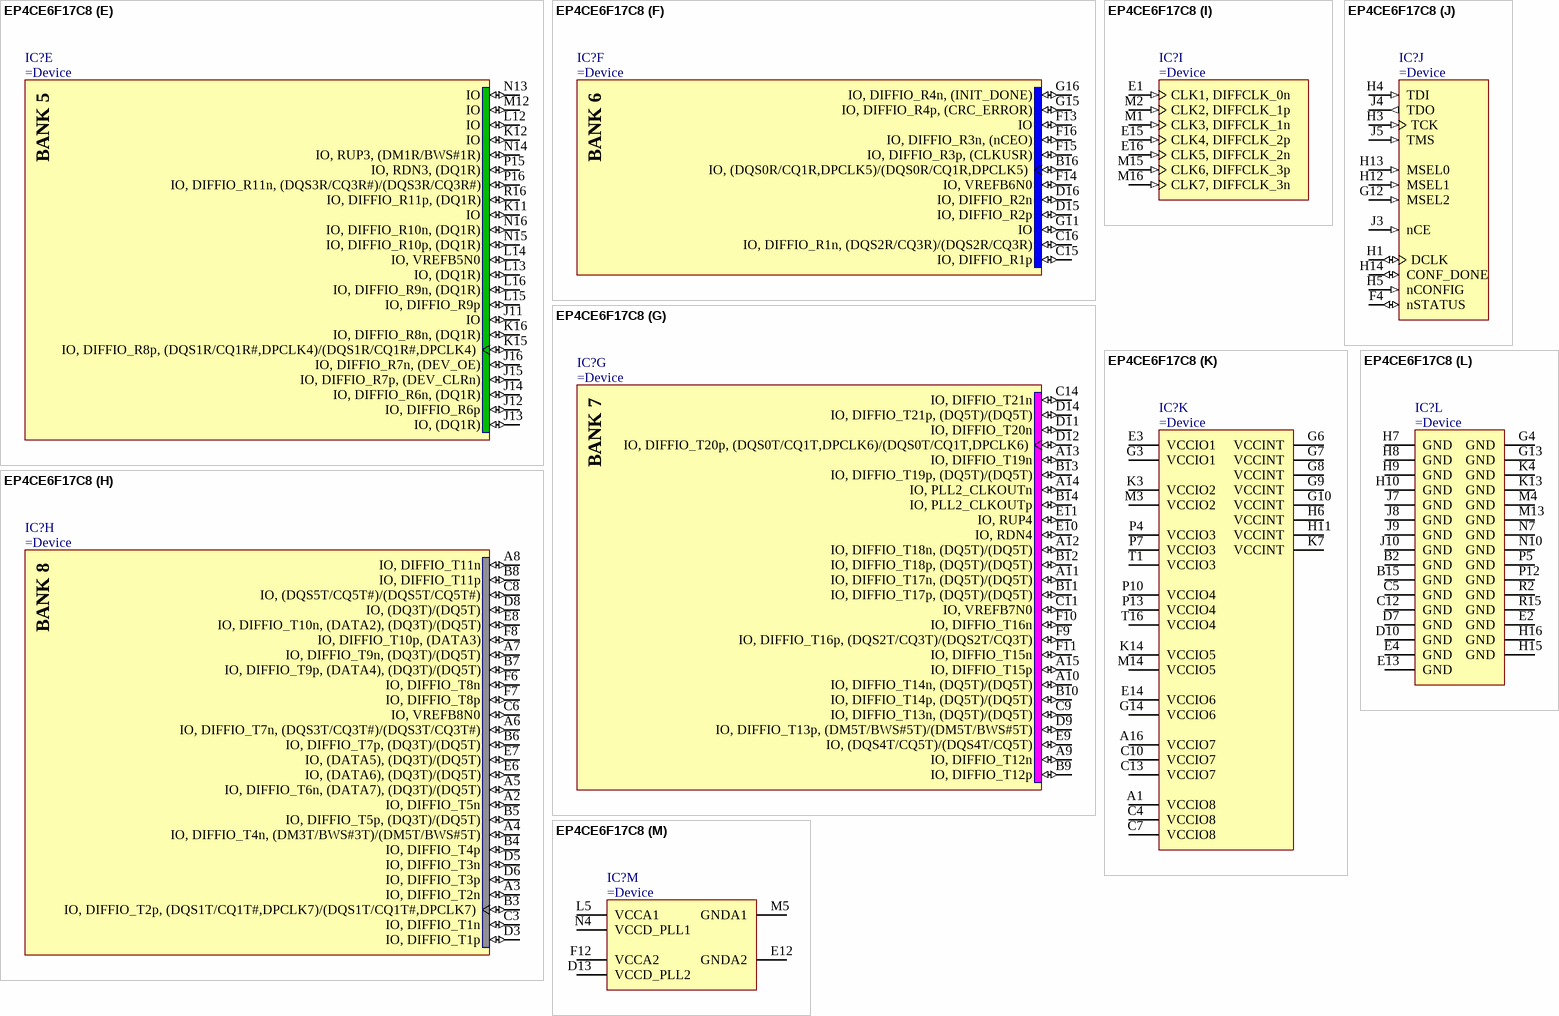
[diagram p62: symbol EP4CE6F17C8]

## EP4CE6F17C8
designator IC?
Cyclone IV E Family, FPGA, 6272 LEs, 179 I/Os, 256-Pin FBGA, Commercial Grade, Speed Grade 8
part A pins: B1 IO, (DQS2L/CQ3L)/(DQS2L/CQ3L) (io), C1 IO, DIFFIO_L1n, (DATA1,ASDO) (io), C2 IO, DIFFIO_L1p (io), D1 IO, DIFFIO_L2n (io), D2 IO, DIFFIO_L2p, (FLASH_nCE,nCSO) (io), D4 IO (io), E5 IO (io), F1 IO, DIFFIO_L3n (io), F2 IO, DIFFIO_L3p (io), F3 IO, VREFB1N0 (io), F5 IO (io), G1 IO, DIFFIO_L4n (io), G2 IO, DIFFIO_L4p, (DQS0L/CQ1L,DPCLK0)/(DQS0L/CQ1L,DPCLK0) (io), G5 IO (io), H2 IO, (DATA0) (io)
part B pins: J1 IO, DIFFIO_L5n, (DQ1L) (io), J2 IO, DIFFIO_L5p, (DQ1L) (io), J6 IO (io), K1 IO, DIFFIO_L7n, (DQ1L) (io), K2 IO, DIFFIO_L7p (io), K5 IO, RUP1, (DQ1L) (io), K6 IO, DIFFIO_L6p (io), L1 IO, DIFFIO_L8n, (DQ1L) (io), L2 IO, DIFFIO_L8p, (DQS1L/CQ1L#,DPCLK1)/(DQS1L/CQ1L#,DPCLK1) (io), L3 IO, VREFB2N0 (io), L4 IO, RDN1, (DQ1L) (io), L6 IO, DIFFIO_L6n (io), N1 IO, DIFFIO_L9n, (DQ1L) (io), N2 IO, DIFFIO_L9p, (DQ1L) (io), P1 IO, DIFFIO_L10n, (DM1L/BWS#1L) (io), P2 IO, DIFFIO_L10p, (DQ1L) (io), R1 IO, (DQS3L/CQ3L#)/(DQS3L/CQ3L#) (io)
part C pins: K8 IO, DIFFIO_B5n (io), L7 IO, (DQ3B)/(DQ5B) (io), L8 IO, DIFFIO_B9p, (DQ3B)/(DQ5B) (io), M6 IO, (DQ3B)/(DQ5B) (io), M7 IO, DIFFIO_B5p, (DQS3B/CQ3B#)/(DQS3B/CQ3B#) (io), M8 IO, DIFFIO_B9n, (DM5B/BWS#5B)/(DM5B/BWS#5B) (io), N3 IO, DIFFIO_B1p (io), N5 IO, DIFFIO_B4p, (DQ3B)/(DQ5B) (io), N6 IO, DIFFIO_B4n, (DQ3B)/(DQ5B) (io), N8 IO, DIFFIO_B10p, (DQ5B)/(DQ5B) (io), P3 IO, DIFFIO_B1n, (DM3B/BWS#3B)/(DM5B/BWS#5B) (io), P6 IO, VREFB3N0 (io), P8 IO, DIFFIO_B10n, (DQ5B)/(DQ5B) (io), R3 IO, DIFFIO_B2p, (DQ3B)/(DQ5B) (io), R4 IO, PLL1_CLKOUTp (io), R5 IO, DIFFIO_B6p, (DQ3B)/(DQ5B) (io), R6 IO, DIFFIO_B7p, (DQ3B)/(DQ5B) (io), R7 IO, DIFFIO_B8p, (DQ3B)/(DQ5B) (io), R8 IO, DIFFIO_B11p (io), T2 IO, (DQS1B/CQ1B#,DPCLK2)/(DQS1B/CQ1B#,DPCLK2) (io), T3 IO, DIFFIO_B2n (io), T4 IO, PLL1_CLKOUTn (io), T5 IO, DIFFIO_B6n (io), T6 IO, DIFFIO_B7n (io), T7 IO, DIFFIO_B8n, (DQS5B/CQ5B#)/(DQS5B/CQ5B#) (io), T8 IO, DIFFIO_B11n (io)
part D pins: K9 IO, DIFFIO_B13p (io), K10 IO, DIFFIO_B18p (io), L9 IO, DIFFIO_B13n (io), L10 IO, DIFFIO_B18n (io), L11 IO, DIFFIO_B21n (io), M9 IO, DIFFIO_B14p (io), M10 IO, RUP2 (io), M11 IO, DIFFIO_B22p (io), N9 IO, DIFFIO_B14n, (DQ5B)/(DQ5B) (io), N11 IO, RDN2 (io), N12 IO, DIFFIO_B22n (io), P9 IO, (DQS2B/CQ3B)/(DQS2B/CQ3B) (io), P11 IO, VREFB4N0 (io), P14 IO, DIFFIO_B21p (io), R9 IO, DIFFIO_B12p (io), R10 IO, DIFFIO_B15p, (DQ5B)/(DQ5B) (io), R11 IO, DIFFIO_B16p, (DQ5B)/(DQ5B) (io), R12 IO, DIFFIO_B17p, (DQ5B)/(DQ5B) (io), R13 IO, DIFFIO_B19p (io), R14 IO (io), T9 IO, DIFFIO_B12n (io), T10 IO, DIFFIO_B15n, (DQS4B/CQ5B)/(DQS4B/CQ5B) (io), T11 IO, DIFFIO_B16n (io), T12 IO, DIFFIO_B17n, (DQ5B)/(DQ5B) (io), T13 IO, DIFFIO_B19n, (DQ5B)/(DQ5B) (io), T14 IO, DIFFIO_B20p, (DQ5B)/(DQ5B) (io), T15 IO, DIFFIO_B20n, (DQS0B/CQ1B,DPCLK3)/(DQS0B/CQ1B,DPCLK3) (io)
part E pins: J11 IO (io), J12 IO, DIFFIO_R6p (io), J13 IO, (DQ1R) (io), J14 IO, DIFFIO_R6n, (DQ1R) (io), J15 IO, DIFFIO_R7p, (DEV_CLRn) (io), J16 IO, DIFFIO_R7n, (DEV_OE) (io), K11 IO (io), K12 IO (io), K15 IO, DIFFIO_R8p, (DQS1R/CQ1R#,DPCLK4)/(DQS1R/CQ1R#,DPCLK4) (io), K16 IO, DIFFIO_R8n, (DQ1R) (io), L12 IO (io), L13 IO, (DQ1R) (io), L14 IO, VREFB5N0 (io), L15 IO, DIFFIO_R9p (io), L16 IO, DIFFIO_R9n, (DQ1R) (io), M12 IO (io), N13 IO (io), N14 IO, RUP3, (DM1R/BWS#1R) (io), N15 IO, DIFFIO_R10p, (DQ1R) (io), N16 IO, DIFFIO_R10n, (DQ1R) (io), P15 IO, RDN3, (DQ1R) (io), P16 IO, DIFFIO_R11n, (DQS3R/CQ3R#)/(DQS3R/CQ3R#) (io), R16 IO, DIFFIO_R11p, (DQ1R) (io)
part F pins: B16 IO, (DQS0R/CQ1R,DPCLK5)/(DQS0R/CQ1R,DPCLK5) (io), C15 IO, DIFFIO_R1p (io), C16 IO, DIFFIO_R1n, (DQS2R/CQ3R)/(DQS2R/CQ3R) (io), D15 IO, DIFFIO_R2p (io), D16 IO, DIFFIO_R2n (io), F13 IO (io), F14 IO, VREFB6N0 (io), F15 IO, DIFFIO_R3p, (CLKUSR) (io), F16 IO, DIFFIO_R3n, (nCEO) (io), G11 IO (io), G15 IO, DIFFIO_R4p, (CRC_ERROR) (io), G16 IO, DIFFIO_R4n, (INIT_DONE) (io)
part G pins: A9 IO, DIFFIO_T12n (io), A10 IO, DIFFIO_T14n, (DQ5T)/(DQ5T) (io), A11 IO, DIFFIO_T17n, (DQ5T)/(DQ5T) (io), A12 IO, DIFFIO_T18n, (DQ5T)/(DQ5T) (io), A13 IO, DIFFIO_T19n (io), A14 IO, PLL2_CLKOUTn (io), A15 IO, DIFFIO_T15p (io), B9 IO, DIFFIO_T12p (io), B10 IO, DIFFIO_T14p, (DQ5T)/(DQ5T) (io), B11 IO, DIFFIO_T17p, (DQ5T)/(DQ5T) (io), B12 IO, DIFFIO_T18p, (DQ5T)/(DQ5T) (io), B13 IO, DIFFIO_T19p, (DQ5T)/(DQ5T) (io), B14 IO, PLL2_CLKOUTp (io), C9 IO, DIFFIO_T13n, (DQ5T)/(DQ5T) (io), C11 IO, VREFB7N0 (io), C14 IO, DIFFIO_T21n (io), D9 IO, DIFFIO_T13p, (DM5T/BWS#5T)/(DM5T/BWS#5T) (io), D11 IO, DIFFIO_T20n (io), D12 IO, DIFFIO_T20p, (DQS0T/CQ1T,DPCLK6)/(DQS0T/CQ1T,DPCLK6) (io), D14 IO, DIFFIO_T21p, (DQ5T)/(DQ5T) (io), E9 IO, (DQS4T/CQ5T)/(DQS4T/CQ5T) (io), E10 IO, RDN4 (io), E11 IO, RUP4 (io), F9 IO, DIFFIO_T16p, (DQS2T/CQ3T)/(DQS2T/CQ3T) (io), F10 IO, DIFFIO_T16n (io), F11 IO, DIFFIO_T15n (io)
part H pins: A2 IO, DIFFIO_T5n (io), A3 IO, DIFFIO_T2n (io), A4 IO, DIFFIO_T4n, (DM3T/BWS#3T)/(DM5T/BWS#5T) (io), A5 IO, DIFFIO_T6n, (DATA7), (DQ3T)/(DQ5T) (io), A6 IO, DIFFIO_T7n, (DQS3T/CQ3T#)/(DQS3T/CQ3T#) (io), A7 IO, DIFFIO_T9n, (DQ3T)/(DQ5T) (io), A8 IO, DIFFIO_T11n (io), B3 IO, DIFFIO_T2p, (DQS1T/CQ1T#,DPCLK7)/(DQS1T/CQ1T#,DPCLK7) (io), B4 IO, DIFFIO_T4p (io), B5 IO, DIFFIO_T5p, (DQ3T)/(DQ5T) (io), B6 IO, DIFFIO_T7p, (DQ3T)/(DQ5T) (io), B7 IO, DIFFIO_T9p, (DATA4), (DQ3T)/(DQ5T) (io), B8 IO, DIFFIO_T11p (io), C3 IO, DIFFIO_T1n (io), C6 IO, VREFB8N0 (io), C8 IO, (DQS5T/CQ5T#)/(DQS5T/CQ5T#) (io), D3 IO, DIFFIO_T1p (io), D5 IO, DIFFIO_T3n (io), D6 IO, DIFFIO_T3p (io), D8 IO, (DQ3T)/(DQ5T) (io), E6 IO, (DATA6), (DQ3T)/(DQ5T) (io), E7 IO, (DATA5), (DQ3T)/(DQ5T) (io), E8 IO, DIFFIO_T10n, (DATA2), (DQ3T)/(DQ5T) (io), F6 IO, DIFFIO_T8n (io), F7 IO, DIFFIO_T8p (io), F8 IO, DIFFIO_T10p, (DATA3) (io)
part I pins: E1 CLK1, DIFFCLK_0n (in), E15 CLK4, DIFFCLK_2p (in), E16 CLK5, DIFFCLK_2n (in), M1 CLK3, DIFFCLK_1n (in), M2 CLK2, DIFFCLK_1p (in), M15 CLK6, DIFFCLK_3p (in), M16 CLK7, DIFFCLK_3n (in)
part J pins: F4 nSTATUS (io), G12 MSEL2 (in), H1 DCLK (io), H3 TCK (in), H4 TDI (in), H5 nCONFIG (in), H12 MSEL1 (in), H13 MSEL0 (in), H14 CONF_DONE (io), J3 nCE (in), J4 TDO (out), J5 TMS (in)
part K pins: A1 VCCIO8 (power), A16 VCCIO7 (power), C4 VCCIO8 (power), C7 VCCIO8 (power), C10 VCCIO7 (power), C13 VCCIO7 (power), E3 VCCIO1 (power), E14 VCCIO6 (power), G3 VCCIO1 (power), G6 VCCINT (power), G7 VCCINT (power), G8 VCCINT (power), G9 VCCINT (power), G10 VCCINT (power), G14 VCCIO6 (power), H6 VCCINT (power), H11 VCCINT (power), K3 VCCIO2 (power), K7 VCCINT (power), K14 VCCIO5 (power), M3 VCCIO2 (power), M14 VCCIO5 (power), P4 VCCIO3 (power), P7 VCCIO3 (power), P10 VCCIO4 (power), P13 VCCIO4 (power), T1 VCCIO3 (power), T16 VCCIO4 (power)
part L pins: B2 GND (power), B15 GND (power), C5 GND (power), C12 GND (power), D7 GND (power), D10 GND (power), E2 GND (power), E4 GND (power), E13 GND (power), G4 GND (power), G13 GND (power), H7 GND (power), H8 GND (power), H9 GND (power), H10 GND (power), H15 GND (power), H16 GND (power), J7 GND (power), J8 GND (power), J9 GND (power), J10 GND (power), K4 GND (power), K13 GND (power), M4 GND (power), M13 GND (power), N7 GND (power), N10 GND (power), P5 GND (power), P12 GND (power), R2 GND (power), R15 GND (power)
part M pins: D13 VCCD_PLL2 (power), E12 GNDA2 (power), F12 VCCA2 (power), L5 VCCA1 (power), M5 GNDA1 (power), N4 VCCD_PLL1 (power)
part A text: BANK 1
part B text: BANK 2
part C text: BANK 3
part D text: BANK 4
part E text: BANK 5
part F text: BANK 6
part G text: BANK 7
part H text: BANK 8

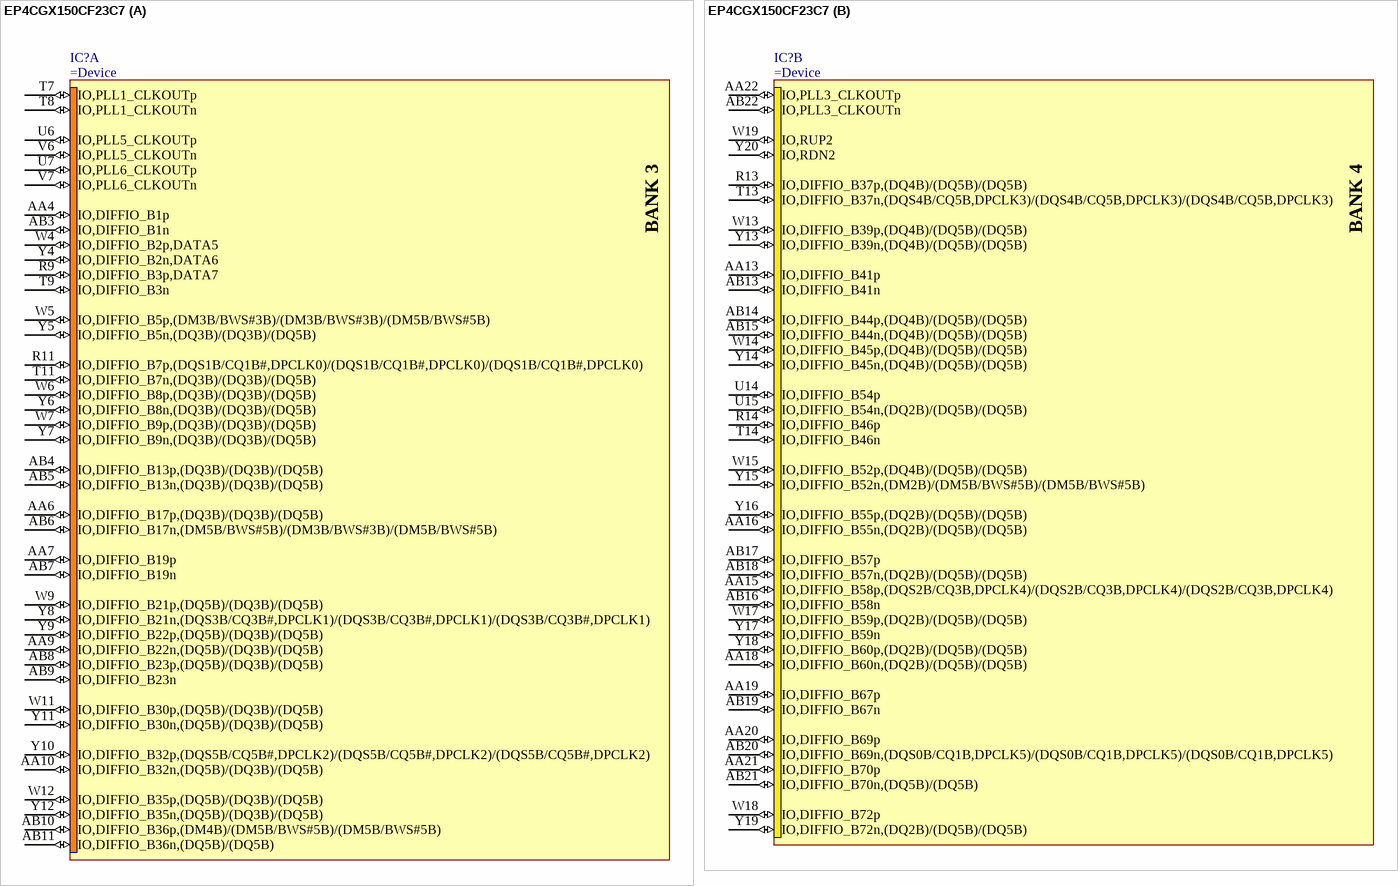
[diagram p63: symbol EP4CGX150CF23C7]

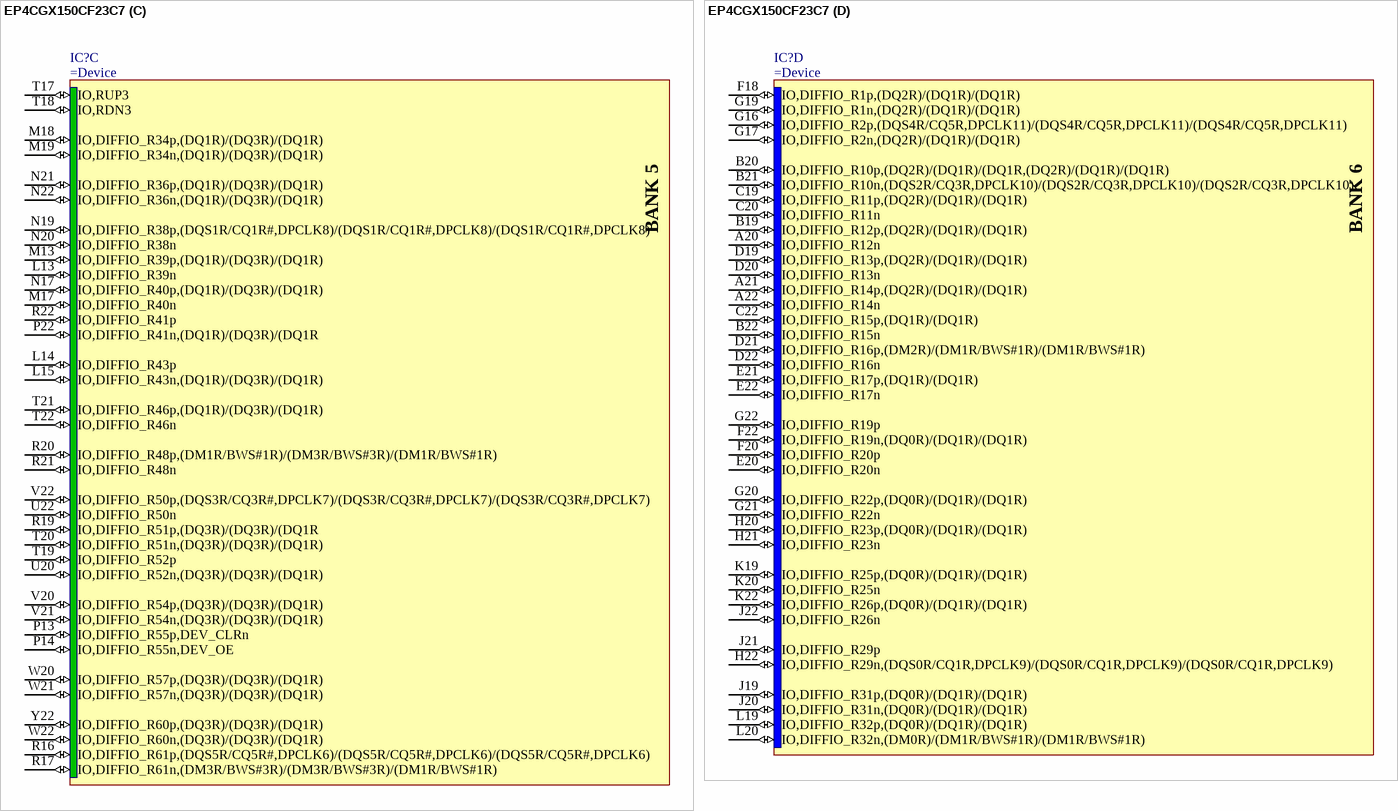
[diagram p64: symbol EP4CGX150CF23C7]

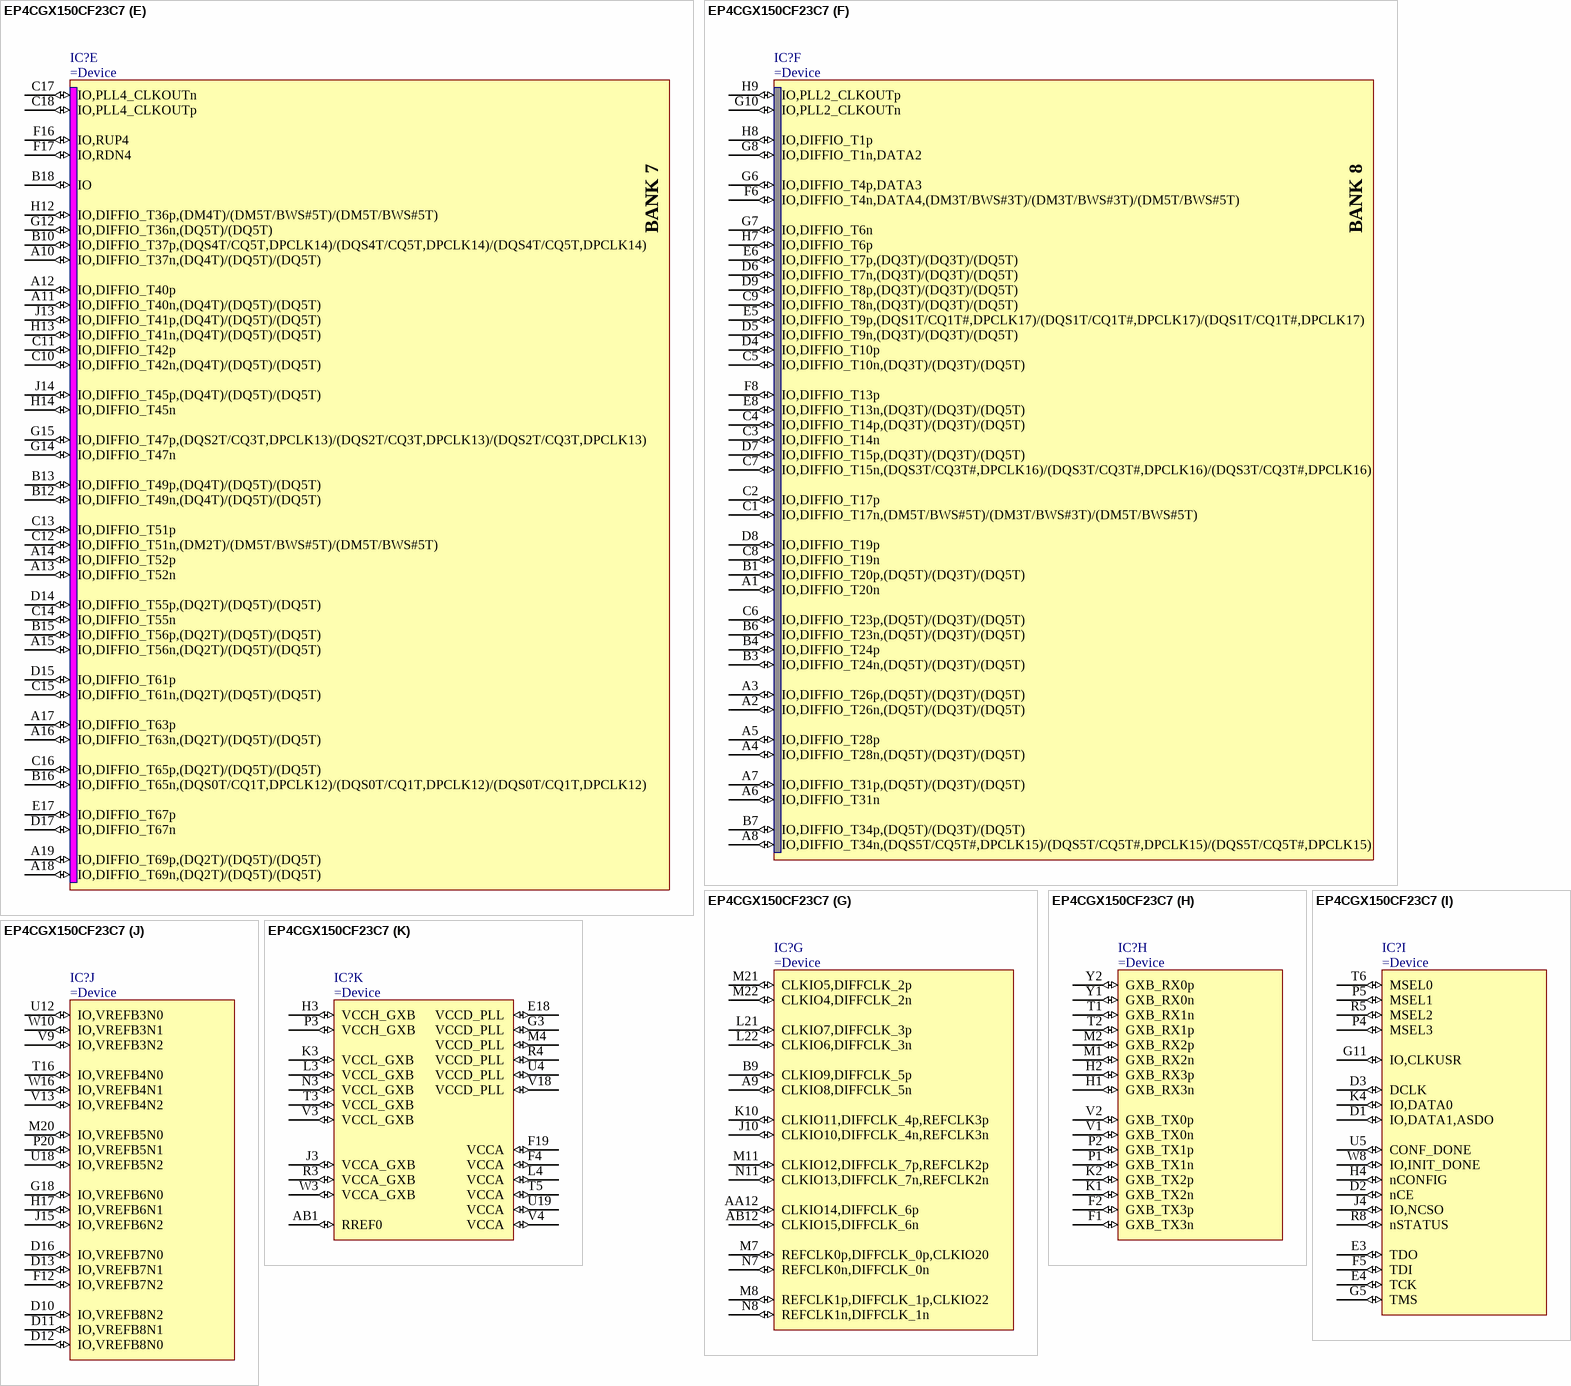
[diagram p65: symbol EP4CGX150CF23C7]

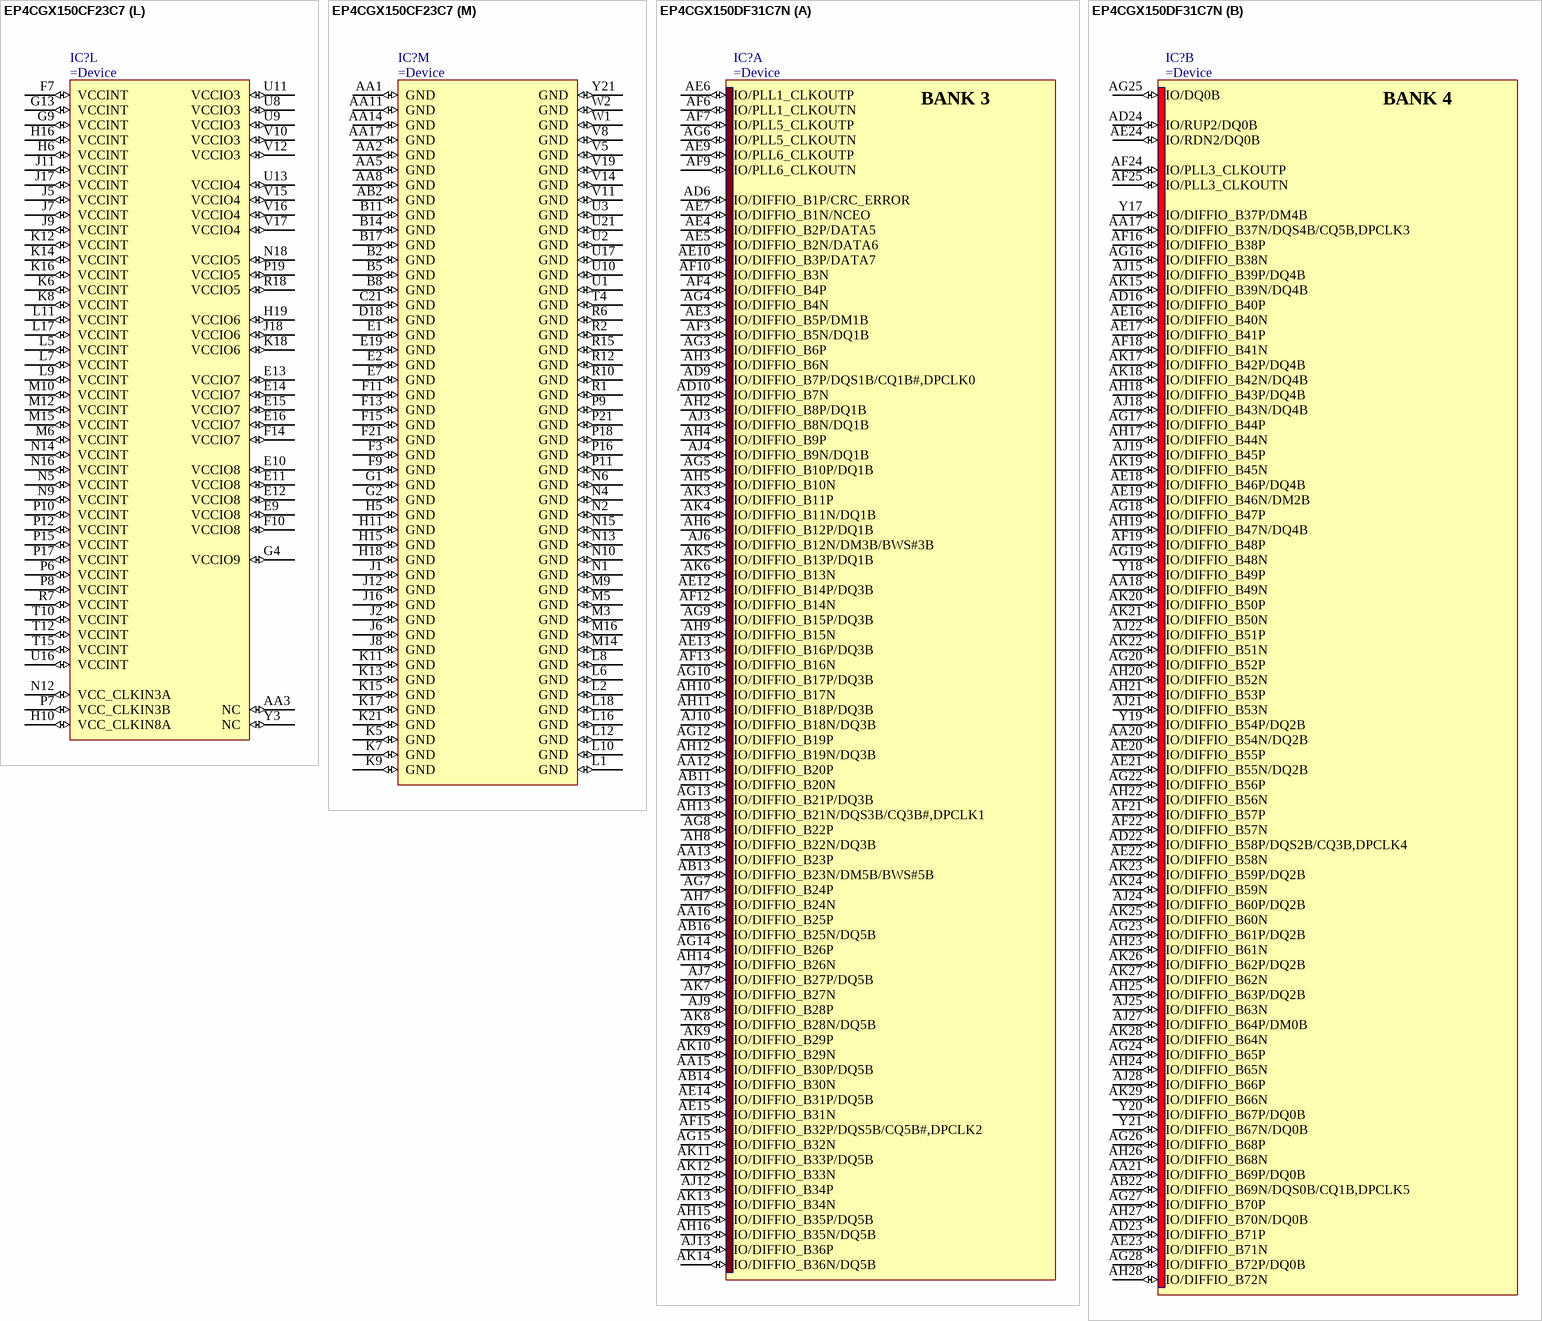
[diagram p66: symbols EP4CGX150CF23C7 to EP4CGX150DF31C7N]

## EP4CGX150CF23C7
designator IC?
Cyclone IV Family FPGA, 1.2V, 270 I/O Pins, 8 PLLs, 8 High-Speed Transceivers, 484-Pin FBGA, Speed Grade 7, Commercial Grade
part A pins: AA4 IO,DIFFIO_B1p (io), AA6 IO,DIFFIO_B17p,(DQ3B)/(DQ3B)/(DQ5B) (io), AA7 IO,DIFFIO_B19p (io), AA9 IO,DIFFIO_B22n,(DQ5B)/(DQ3B)/(DQ5B) (io), AA10 IO,DIFFIO_B32n,(DQ5B)/(DQ3B)/(DQ5B) (io), AB3 IO,DIFFIO_B1n (io), AB4 IO,DIFFIO_B13p,(DQ3B)/(DQ3B)/(DQ5B) (io), AB5 IO,DIFFIO_B13n,(DQ3B)/(DQ3B)/(DQ5B) (io), AB6 IO,DIFFIO_B17n,(DM5B/BWS#5B)/(DM3B/BWS#3B)/(DM5B/BWS#5B) (io), AB7 IO,DIFFIO_B19n (io), AB8 IO,DIFFIO_B23p,(DQ5B)/(DQ3B)/(DQ5B) (io), AB9 IO,DIFFIO_B23n (io), AB10 IO,DIFFIO_B36p,(DM4B)/(DM5B/BWS#5B)/(DM5B/BWS#5B) (io), AB11 IO,DIFFIO_B36n,(DQ5B)/(DQ5B) (io), R9 IO,DIFFIO_B3p,DATA7 (io), R11 IO,DIFFIO_B7p,(DQS1B/CQ1B#,DPCLK0)/(DQS1B/CQ1B#,DPCLK0)/(DQS1B/CQ1B#,DPCLK0) (io), T7 IO,PLL1_CLKOUTp (io), T8 IO,PLL1_CLKOUTn (io), T9 IO,DIFFIO_B3n (io), T11 IO,DIFFIO_B7n,(DQ3B)/(DQ3B)/(DQ5B) (io), U6 IO,PLL5_CLKOUTp (io), U7 IO,PLL6_CLKOUTp (io), V6 IO,PLL5_CLKOUTn (io), V7 IO,PLL6_CLKOUTn (io), W4 IO,DIFFIO_B2p,DATA5 (io), W5 IO,DIFFIO_B5p,(DM3B/BWS#3B)/(DM3B/BWS#3B)/(DM5B/BWS#5B) (io), W6 IO,DIFFIO_B8p,(DQ3B)/(DQ3B)/(DQ5B) (io), W7 IO,DIFFIO_B9p,(DQ3B)/(DQ3B)/(DQ5B) (io), W9 IO,DIFFIO_B21p,(DQ5B)/(DQ3B)/(DQ5B) (io), W11 IO,DIFFIO_B30p,(DQ5B)/(DQ3B)/(DQ5B) (io), W12 IO,DIFFIO_B35p,(DQ5B)/(DQ3B)/(DQ5B) (io), Y4 IO,DIFFIO_B2n,DATA6 (io), Y5 IO,DIFFIO_B5n,(DQ3B)/(DQ3B)/(DQ5B) (io), Y6 IO,DIFFIO_B8n,(DQ3B)/(DQ3B)/(DQ5B) (io), Y7 IO,DIFFIO_B9n,(DQ3B)/(DQ3B)/(DQ5B) (io), Y8 IO,DIFFIO_B21n,(DQS3B/CQ3B#,DPCLK1)/(DQS3B/CQ3B#,DPCLK1)/(DQS3B/CQ3B#,DPCLK1) (io), Y9 IO,DIFFIO_B22p,(DQ5B)/(DQ3B)/(DQ5B) (io), Y10 IO,DIFFIO_B32p,(DQS5B/CQ5B#,DPCLK2)/(DQS5B/CQ5B#,DPCLK2)/(DQS5B/CQ5B#,DPCLK2) (io), Y11 IO,DIFFIO_B30n,(DQ5B)/(DQ3B)/(DQ5B) (io), Y12 IO,DIFFIO_B35n,(DQ5B)/(DQ3B)/(DQ5B) (io)
part B pins: AA13 IO,DIFFIO_B41p (io), AA15 IO,DIFFIO_B58p,(DQS2B/CQ3B,DPCLK4)/(DQS2B/CQ3B,DPCLK4)/(DQS2B/CQ3B,DPCLK4) (io), AA16 IO,DIFFIO_B55n,(DQ2B)/(DQ5B)/(DQ5B) (io), AA18 IO,DIFFIO_B60n,(DQ2B)/(DQ5B)/(DQ5B) (io), AA19 IO,DIFFIO_B67p (io), AA20 IO,DIFFIO_B69p (io), AA21 IO,DIFFIO_B70p (io), AA22 IO,PLL3_CLKOUTp (io), AB13 IO,DIFFIO_B41n (io), AB14 IO,DIFFIO_B44p,(DQ4B)/(DQ5B)/(DQ5B) (io), AB15 IO,DIFFIO_B44n,(DQ4B)/(DQ5B)/(DQ5B) (io), AB16 IO,DIFFIO_B58n (io), AB17 IO,DIFFIO_B57p (io), AB18 IO,DIFFIO_B57n,(DQ2B)/(DQ5B)/(DQ5B) (io), AB19 IO,DIFFIO_B67n (io), AB20 IO,DIFFIO_B69n,(DQS0B/CQ1B,DPCLK5)/(DQS0B/CQ1B,DPCLK5)/(DQS0B/CQ1B,DPCLK5) (io), AB21 IO,DIFFIO_B70n,(DQ5B)/(DQ5B) (io), AB22 IO,PLL3_CLKOUTn (io), R13 IO,DIFFIO_B37p,(DQ4B)/(DQ5B)/(DQ5B) (io), R14 IO,DIFFIO_B46p (io), T13 IO,DIFFIO_B37n,(DQS4B/CQ5B,DPCLK3)/(DQS4B/CQ5B,DPCLK3)/(DQS4B/CQ5B,DPCLK3) (io), T14 IO,DIFFIO_B46n (io), U14 IO,DIFFIO_B54p (io), U15 IO,DIFFIO_B54n,(DQ2B)/(DQ5B)/(DQ5B) (io), W13 IO,DIFFIO_B39p,(DQ4B)/(DQ5B)/(DQ5B) (io), W14 IO,DIFFIO_B45p,(DQ4B)/(DQ5B)/(DQ5B) (io), W15 IO,DIFFIO_B52p,(DQ4B)/(DQ5B)/(DQ5B) (io), W17 IO,DIFFIO_B59p,(DQ2B)/(DQ5B)/(DQ5B) (io), W18 IO,DIFFIO_B72p (io), W19 IO,RUP2 (io), Y13 IO,DIFFIO_B39n,(DQ4B)/(DQ5B)/(DQ5B) (io), Y14 IO,DIFFIO_B45n,(DQ4B)/(DQ5B)/(DQ5B) (io), Y15 IO,DIFFIO_B52n,(DM2B)/(DM5B/BWS#5B)/(DM5B/BWS#5B) (io), Y16 IO,DIFFIO_B55p,(DQ2B)/(DQ5B)/(DQ5B) (io), Y17 IO,DIFFIO_B59n (io), Y18 IO,DIFFIO_B60p,(DQ2B)/(DQ5B)/(DQ5B) (io), Y19 IO,DIFFIO_B72n,(DQ2B)/(DQ5B)/(DQ5B) (io), Y20 IO,RDN2 (io)
part C pins: L13 IO,DIFFIO_R39n (io), L14 IO,DIFFIO_R43p (io), L15 IO,DIFFIO_R43n,(DQ1R)/(DQ3R)/(DQ1R) (io), M13 IO,DIFFIO_R39p,(DQ1R)/(DQ3R)/(DQ1R) (io), M17 IO,DIFFIO_R40n (io), M18 IO,DIFFIO_R34p,(DQ1R)/(DQ3R)/(DQ1R) (io), M19 IO,DIFFIO_R34n,(DQ1R)/(DQ3R)/(DQ1R) (io), N17 IO,DIFFIO_R40p,(DQ1R)/(DQ3R)/(DQ1R) (io), N19 IO,DIFFIO_R38p,(DQS1R/CQ1R#,DPCLK8)/(DQS1R/CQ1R#,DPCLK8)/(DQS1R/CQ1R#,DPCLK8) (io), N20 IO,DIFFIO_R38n (io), N21 IO,DIFFIO_R36p,(DQ1R)/(DQ3R)/(DQ1R) (io), N22 IO,DIFFIO_R36n,(DQ1R)/(DQ3R)/(DQ1R) (io), P13 IO,DIFFIO_R55p,DEV_CLRn (io), P14 IO,DIFFIO_R55n,DEV_OE (io), P22 IO,DIFFIO_R41n,(DQ1R)/(DQ3R)/(DQ1R (io), R16 IO,DIFFIO_R61p,(DQS5R/CQ5R#,DPCLK6)/(DQS5R/CQ5R#,DPCLK6)/(DQS5R/CQ5R#,DPCLK6) (io), R17 IO,DIFFIO_R61n,(DM3R/BWS#3R)/(DM3R/BWS#3R)/(DM1R/BWS#1R) (io), R19 IO,DIFFIO_R51p,(DQ3R)/(DQ3R)/(DQ1R (io), R20 IO,DIFFIO_R48p,(DM1R/BWS#1R)/(DM3R/BWS#3R)/(DM1R/BWS#1R) (io), R21 IO,DIFFIO_R48n (io), R22 IO,DIFFIO_R41p (io), T17 IO,RUP3 (io), T18 IO,RDN3 (io), T19 IO,DIFFIO_R52p (io), T20 IO,DIFFIO_R51n,(DQ3R)/(DQ3R)/(DQ1R) (io), T21 IO,DIFFIO_R46p,(DQ1R)/(DQ3R)/(DQ1R) (io), T22 IO,DIFFIO_R46n (io), U20 IO,DIFFIO_R52n,(DQ3R)/(DQ3R)/(DQ1R) (io), U22 IO,DIFFIO_R50n (io), V20 IO,DIFFIO_R54p,(DQ3R)/(DQ3R)/(DQ1R) (io), V21 IO,DIFFIO_R54n,(DQ3R)/(DQ3R)/(DQ1R) (io), V22 IO,DIFFIO_R50p,(DQS3R/CQ3R#,DPCLK7)/(DQS3R/CQ3R#,DPCLK7)/(DQS3R/CQ3R#,DPCLK7) (io), W20 IO,DIFFIO_R57p,(DQ3R)/(DQ3R)/(DQ1R) (io), W21 IO,DIFFIO_R57n,(DQ3R)/(DQ3R)/(DQ1R) (io), W22 IO,DIFFIO_R60n,(DQ3R)/(DQ3R)/(DQ1R) (io), Y22 IO,DIFFIO_R60p,(DQ3R)/(DQ3R)/(DQ1R) (io)
part D pins: A20 IO,DIFFIO_R12n (io), A21 IO,DIFFIO_R14p,(DQ2R)/(DQ1R)/(DQ1R) (io), A22 IO,DIFFIO_R14n (io), B19 IO,DIFFIO_R12p,(DQ2R)/(DQ1R)/(DQ1R) (io), B20 IO,DIFFIO_R10p,(DQ2R)/(DQ1R)/(DQ1R,(DQ2R)/(DQ1R)/(DQ1R) (io), B21 IO,DIFFIO_R10n,(DQS2R/CQ3R,DPCLK10)/(DQS2R/CQ3R,DPCLK10)/(DQS2R/CQ3R,DPCLK10) (io), B22 IO,DIFFIO_R15n (io), C19 IO,DIFFIO_R11p,(DQ2R)/(DQ1R)/(DQ1R) (io), C20 IO,DIFFIO_R11n (io), C22 IO,DIFFIO_R15p,(DQ1R)/(DQ1R) (io), D19 IO,DIFFIO_R13p,(DQ2R)/(DQ1R)/(DQ1R) (io), D20 IO,DIFFIO_R13n (io), D21 IO,DIFFIO_R16p,(DM2R)/(DM1R/BWS#1R)/(DM1R/BWS#1R) (io), D22 IO,DIFFIO_R16n (io), E20 IO,DIFFIO_R20n (io), E21 IO,DIFFIO_R17p,(DQ1R)/(DQ1R) (io), E22 IO,DIFFIO_R17n (io), F18 IO,DIFFIO_R1p,(DQ2R)/(DQ1R)/(DQ1R) (io), F20 IO,DIFFIO_R20p (io), F22 IO,DIFFIO_R19n,(DQ0R)/(DQ1R)/(DQ1R) (io), G16 IO,DIFFIO_R2p,(DQS4R/CQ5R,DPCLK11)/(DQS4R/CQ5R,DPCLK11)/(DQS4R/CQ5R,DPCLK11) (io), G17 IO,DIFFIO_R2n,(DQ2R)/(DQ1R)/(DQ1R) (io), G19 IO,DIFFIO_R1n,(DQ2R)/(DQ1R)/(DQ1R) (io), G20 IO,DIFFIO_R22p,(DQ0R)/(DQ1R)/(DQ1R) (io), G21 IO,DIFFIO_R22n (io), G22 IO,DIFFIO_R19p (io), H20 IO,DIFFIO_R23p,(DQ0R)/(DQ1R)/(DQ1R) (io), H21 IO,DIFFIO_R23n (io), H22 IO,DIFFIO_R29n,(DQS0R/CQ1R,DPCLK9)/(DQS0R/CQ1R,DPCLK9)/(DQS0R/CQ1R,DPCLK9) (io), J19 IO,DIFFIO_R31p,(DQ0R)/(DQ1R)/(DQ1R) (io), J20 IO,DIFFIO_R31n,(DQ0R)/(DQ1R)/(DQ1R) (io), J21 IO,DIFFIO_R29p (io), J22 IO,DIFFIO_R26n (io), K19 IO,DIFFIO_R25p,(DQ0R)/(DQ1R)/(DQ1R) (io), K20 IO,DIFFIO_R25n (io), K22 IO,DIFFIO_R26p,(DQ0R)/(DQ1R)/(DQ1R) (io), L19 IO,DIFFIO_R32p,(DQ0R)/(DQ1R)/(DQ1R) (io), L20 IO,DIFFIO_R32n,(DM0R)/(DM1R/BWS#1R)/(DM1R/BWS#1R) (io)
part E pins: A10 IO,DIFFIO_T37n,(DQ4T)/(DQ5T)/(DQ5T) (io), A11 IO,DIFFIO_T40n,(DQ4T)/(DQ5T)/(DQ5T) (io), A12 IO,DIFFIO_T40p (io), A13 IO,DIFFIO_T52n (io), A14 IO,DIFFIO_T52p (io), A15 IO,DIFFIO_T56n,(DQ2T)/(DQ5T)/(DQ5T) (io), A16 IO,DIFFIO_T63n,(DQ2T)/(DQ5T)/(DQ5T) (io), A17 IO,DIFFIO_T63p (io), A18 IO,DIFFIO_T69n,(DQ2T)/(DQ5T)/(DQ5T) (io), A19 IO,DIFFIO_T69p,(DQ2T)/(DQ5T)/(DQ5T) (io), B10 IO,DIFFIO_T37p,(DQS4T/CQ5T,DPCLK14)/(DQS4T/CQ5T,DPCLK14)/(DQS4T/CQ5T,DPCLK14) (io), B12 IO,DIFFIO_T49n,(DQ4T)/(DQ5T)/(DQ5T) (io), B13 IO,DIFFIO_T49p,(DQ4T)/(DQ5T)/(DQ5T) (io), B15 IO,DIFFIO_T56p,(DQ2T)/(DQ5T)/(DQ5T) (io), B16 IO,DIFFIO_T65n,(DQS0T/CQ1T,DPCLK12)/(DQS0T/CQ1T,DPCLK12)/(DQS0T/CQ1T,DPCLK12) (io), B18 IO (io), C10 IO,DIFFIO_T42n,(DQ4T)/(DQ5T)/(DQ5T) (io), C11 IO,DIFFIO_T42p (io), C12 IO,DIFFIO_T51n,(DM2T)/(DM5T/BWS#5T)/(DM5T/BWS#5T) (io), C13 IO,DIFFIO_T51p (io), C14 IO,DIFFIO_T55n (io), C15 IO,DIFFIO_T61n,(DQ2T)/(DQ5T)/(DQ5T) (io), C16 IO,DIFFIO_T65p,(DQ2T)/(DQ5T)/(DQ5T) (io), C17 IO,PLL4_CLKOUTn (io), C18 IO,PLL4_CLKOUTp (io), D14 IO,DIFFIO_T55p,(DQ2T)/(DQ5T)/(DQ5T) (io), D15 IO,DIFFIO_T61p (io), D17 IO,DIFFIO_T67n (io), E17 IO,DIFFIO_T67p (io), F16 IO,RUP4 (io), F17 IO,RDN4 (io), G12 IO,DIFFIO_T36n,(DQ5T)/(DQ5T) (io), G14 IO,DIFFIO_T47n (io), G15 IO,DIFFIO_T47p,(DQS2T/CQ3T,DPCLK13)/(DQS2T/CQ3T,DPCLK13)/(DQS2T/CQ3T,DPCLK13) (io), H12 IO,DIFFIO_T36p,(DM4T)/(DM5T/BWS#5T)/(DM5T/BWS#5T) (io), H13 IO,DIFFIO_T41n,(DQ4T)/(DQ5T)/(DQ5T) (io), H14 IO,DIFFIO_T45n (io), J13 IO,DIFFIO_T41p,(DQ4T)/(DQ5T)/(DQ5T) (io), J14 IO,DIFFIO_T45p,(DQ4T)/(DQ5T)/(DQ5T) (io)
part F pins: A1 IO,DIFFIO_T20n (io), A2 IO,DIFFIO_T26n,(DQ5T)/(DQ3T)/(DQ5T) (io), A3 IO,DIFFIO_T26p,(DQ5T)/(DQ3T)/(DQ5T) (io), A4 IO,DIFFIO_T28n,(DQ5T)/(DQ3T)/(DQ5T) (io), A5 IO,DIFFIO_T28p (io), A6 IO,DIFFIO_T31n (io), A7 IO,DIFFIO_T31p,(DQ5T)/(DQ3T)/(DQ5T) (io), A8 IO,DIFFIO_T34n,(DQS5T/CQ5T#,DPCLK15)/(DQS5T/CQ5T#,DPCLK15)/(DQS5T/CQ5T#,DPCLK15) (io), B1 IO,DIFFIO_T20p,(DQ5T)/(DQ3T)/(DQ5T) (io), B3 IO,DIFFIO_T24n,(DQ5T)/(DQ3T)/(DQ5T) (io), B4 IO,DIFFIO_T24p (io), B6 IO,DIFFIO_T23n,(DQ5T)/(DQ3T)/(DQ5T) (io), B7 IO,DIFFIO_T34p,(DQ5T)/(DQ3T)/(DQ5T) (io), C1 IO,DIFFIO_T17n,(DM5T/BWS#5T)/(DM3T/BWS#3T)/(DM5T/BWS#5T) (io), C2 IO,DIFFIO_T17p (io), C3 IO,DIFFIO_T14n (io), C4 IO,DIFFIO_T14p,(DQ3T)/(DQ3T)/(DQ5T) (io), C5 IO,DIFFIO_T10n,(DQ3T)/(DQ3T)/(DQ5T) (io), C6 IO,DIFFIO_T23p,(DQ5T)/(DQ3T)/(DQ5T) (io), C7 IO,DIFFIO_T15n,(DQS3T/CQ3T#,DPCLK16)/(DQS3T/CQ3T#,DPCLK16)/(DQS3T/CQ3T#,DPCLK16) (io), C8 IO,DIFFIO_T19n (io), C9 IO,DIFFIO_T8n,(DQ3T)/(DQ3T)/(DQ5T) (io), D4 IO,DIFFIO_T10p (io), D5 IO,DIFFIO_T9n,(DQ3T)/(DQ3T)/(DQ5T) (io), D6 IO,DIFFIO_T7n,(DQ3T)/(DQ3T)/(DQ5T) (io), D7 IO,DIFFIO_T15p,(DQ3T)/(DQ3T)/(DQ5T) (io), D8 IO,DIFFIO_T19p (io), D9 IO,DIFFIO_T8p,(DQ3T)/(DQ3T)/(DQ5T) (io), E5 IO,DIFFIO_T9p,(DQS1T/CQ1T#,DPCLK17)/(DQS1T/CQ1T#,DPCLK17)/(DQS1T/CQ1T#,DPCLK17) (io), E6 IO,DIFFIO_T7p,(DQ3T)/(DQ3T)/(DQ5T) (io), E8 IO,DIFFIO_T13n,(DQ3T)/(DQ3T)/(DQ5T) (io), F6 IO,DIFFIO_T4n,DATA4,(DM3T/BWS#3T)/(DM3T/BWS#3T)/(DM5T/BWS#5T) (io), F8 IO,DIFFIO_T13p (io), G6 IO,DIFFIO_T4p,DATA3 (io), G7 IO,DIFFIO_T6n (io), G8 IO,DIFFIO_T1n,DATA2 (io), G10 IO,PLL2_CLKOUTn (io), H7 IO,DIFFIO_T6p (io), H8 IO,DIFFIO_T1p (io), H9 IO,PLL2_CLKOUTp (io)
part G pins: A9 CLKIO8,DIFFCLK_5n (io), AA12 CLKIO14,DIFFCLK_6p (io), AB12 CLKIO15,DIFFCLK_6n (io), B9 CLKIO9,DIFFCLK_5p (io), J10 CLKIO10,DIFFCLK_4n,REFCLK3n (io), K10 CLKIO11,DIFFCLK_4p,REFCLK3p (io), L21 CLKIO7,DIFFCLK_3p (io), L22 CLKIO6,DIFFCLK_3n (io), M7 REFCLK0p,DIFFCLK_0p,CLKIO20 (io), M8 REFCLK1p,DIFFCLK_1p,CLKIO22 (io), M11 CLKIO12,DIFFCLK_7p,REFCLK2p (io), M21 CLKIO5,DIFFCLK_2p (io), M22 CLKIO4,DIFFCLK_2n (io), N7 REFCLK0n,DIFFCLK_0n (io), N8 REFCLK1n,DIFFCLK_1n (io), N11 CLKIO13,DIFFCLK_7n,REFCLK2n (io)
part H pins: F1 GXB_TX3n (io), F2 GXB_TX3p (io), H1 GXB_RX3n (io), H2 GXB_RX3p (io), K1 GXB_TX2n (io), K2 GXB_TX2p (io), M1 GXB_RX2n (io), M2 GXB_RX2p (io), P1 GXB_TX1n (io), P2 GXB_TX1p (io), T1 GXB_RX1n (io), T2 GXB_RX1p (io), V1 GXB_TX0n (io), V2 GXB_TX0p (io), Y1 GXB_RX0n (io), Y2 GXB_RX0p (io)
part I pins: D1 IO,DATA1,ASDO (io), D2 nCE (io), D3 DCLK (io), E3 TDO (io), E4 TCK (io), F5 TDI (io), G5 TMS (io), G11 IO,CLKUSR (io), H4 nCONFIG (io), J4 IO,NCSO (io), K4 IO,DATA0 (io), P4 MSEL3 (io), P5 MSEL1 (io), R5 MSEL2 (io), R8 nSTATUS (io), T6 MSEL0 (io), U5 CONF_DONE (io), W8 IO,INIT_DONE (io)
part J pins: D10 IO,VREFB8N2 (io), D11 IO,VREFB8N1 (io), D12 IO,VREFB8N0 (io), D13 IO,VREFB7N1 (io), D16 IO,VREFB7N0 (io), F12 IO,VREFB7N2 (io), G18 IO,VREFB6N0 (io), H17 IO,VREFB6N1 (io), J15 IO,VREFB6N2 (io), M20 IO,VREFB5N0 (io), P20 IO,VREFB5N1 (io), T16 IO,VREFB4N0 (io), U12 IO,VREFB3N0 (io), U18 IO,VREFB5N2 (io), V9 IO,VREFB3N2 (io), V13 IO,VREFB4N2 (io), W10 IO,VREFB3N1 (io), W16 IO,VREFB4N1 (io)
part K pins: AB1 RREF0 (io), E18 VCCD_PLL (io), F4 VCCA (io), F19 VCCA (io), G3 VCCD_PLL (io), H3 VCCH_GXB (io), J3 VCCA_GXB (io), K3 VCCL_GXB (io), L3 VCCL_GXB (io), L4 VCCA (io), M4 VCCD_PLL (io), N3 VCCL_GXB (io), P3 VCCH_GXB (io), R3 VCCA_GXB (io), R4 VCCD_PLL (io), T3 VCCL_GXB (io), T5 VCCA (io), U4 VCCD_PLL (io), U19 VCCA (io), V3 VCCL_GXB (io), V4 VCCA (io), V18 VCCD_PLL (io), W3 VCCA_GXB (io)
part L pins: AA3 NC (io), E9 VCCIO8 (io), E10 VCCIO8 (io), E11 VCCIO8 (io), E12 VCCIO8 (io), E13 VCCIO7 (io), E14 VCCIO7 (io), E15 VCCIO7 (io), E16 VCCIO7 (io), F7 VCCINT (io), F10 VCCIO8 (io), F14 VCCIO7 (io), G4 VCCIO9 (io), G9 VCCINT (io), G13 VCCINT (io), H6 VCCINT (io), H10 VCC_CLKIN8A (io), H16 VCCINT (io), H19 VCCIO6 (io), J5 VCCINT (io), J7 VCCINT (io), J9 VCCINT (io), J11 VCCINT (io), J17 VCCINT (io), J18 VCCIO6 (io), K6 VCCINT (io), K8 VCCINT (io), K12 VCCINT (io), K14 VCCINT (io), K16 VCCINT (io), K18 VCCIO6 (io), L5 VCCINT (io), L7 VCCINT (io), L9 VCCINT (io), L11 VCCINT (io), L17 VCCINT (io), M6 VCCINT (io), M10 VCCINT (io), M12 VCCINT (io), M15 VCCINT (io), N5 VCCINT (io), N9 VCCINT (io), N12 VCC_CLKIN3A (io), N14 VCCINT (io), N16 VCCINT (io), N18 VCCIO5 (io), P6 VCCINT (io), P7 VCC_CLKIN3B (io), P8 VCCINT (io), P10 VCCINT (io), P12 VCCINT (io), P15 VCCINT (io), P17 VCCINT (io), P19 VCCIO5 (io), R7 VCCINT (io), R18 VCCIO5 (io), T10 VCCINT (io), T12 VCCINT (io), T15 VCCINT (io), U8 VCCIO3 (io), U9 VCCIO3 (io), U11 VCCIO3 (io), U13 VCCIO4 (io), U16 VCCINT (io), V10 VCCIO3 (io), V12 VCCIO3 (io), V15 VCCIO4 (io), V16 VCCIO4 (io), V17 VCCIO4 (io), Y3 NC (io)
part M pins: AA1 GND (io), AA2 GND (io), AA5 GND (io), AA8 GND (io), AA11 GND (io), AA14 GND (io), AA17 GND (io), AB2 GND (io), B2 GND (io), B5 GND (io), B8 GND (io), B11 GND (io), B14 GND (io), B17 GND (io), C21 GND (io), D18 GND (io), E1 GND (io), E2 GND (io), E7 GND (io), E19 GND (io), F3 GND (io), F9 GND (io), F11 GND (io), F13 GND (io), F15 GND (io), F21 GND (io), G1 GND (io), G2 GND (io), H5 GND (io), H11 GND (io), H15 GND (io), H18 GND (io), J1 GND (io), J2 GND (io), J6 GND (io), J8 GND (io), J12 GND (io), J16 GND (io), K5 GND (io), K7 GND (io), K9 GND (io), K11 GND (io), K13 GND (io), K15 GND (io), K17 GND (io), K21 GND (io), L1 GND (io), L2 GND (io), L6 GND (io), L8 GND (io), L10 GND (io), L12 GND (io), L16 GND (io), L18 GND (io), M3 GND (io), M5 GND (io), M9 GND (io), M14 GND (io), M16 GND (io), N1 GND (io), N2 GND (io), N4 GND (io), N6 GND (io), N10 GND (io), N13 GND (io), N15 GND (io), P9 GND (io), P11 GND (io), P16 GND (io), P18 GND (io), P21 GND (io), R1 GND (io), R2 GND (io), R6 GND (io), R10 GND (io), R12 GND (io), R15 GND (io), T4 GND (io), U1 GND (io), U2 GND (io), U3 GND (io), U10 GND (io), U17 GND (io), U21 GND (io), V5 GND (io), V8 GND (io), V11 GND (io), V14 GND (io), V19 GND (io), W1 GND (io), W2 GND (io), Y21 GND (io)
part A text: BANK 3
part B text: BANK 4
part C text: BANK 5
part D text: BANK 6
part E text: BANK 7
part F text: BANK 8

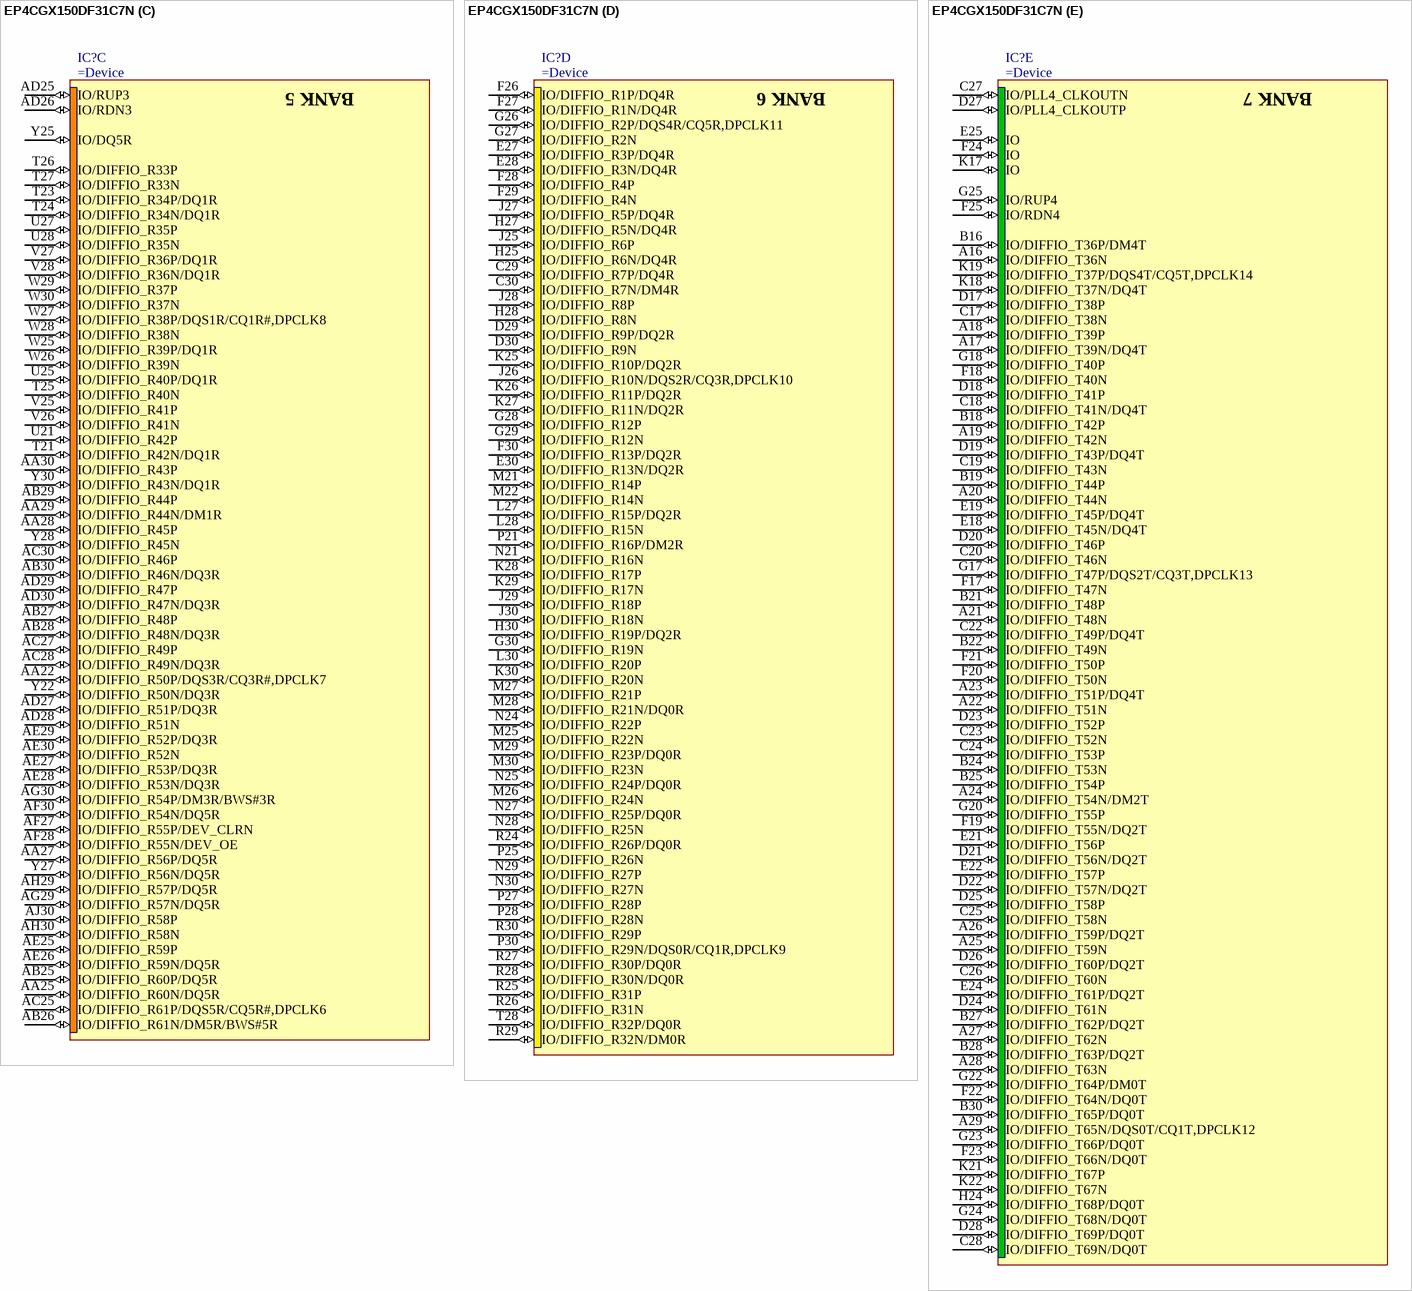
[diagram p67: symbol EP4CGX150DF31C7N]

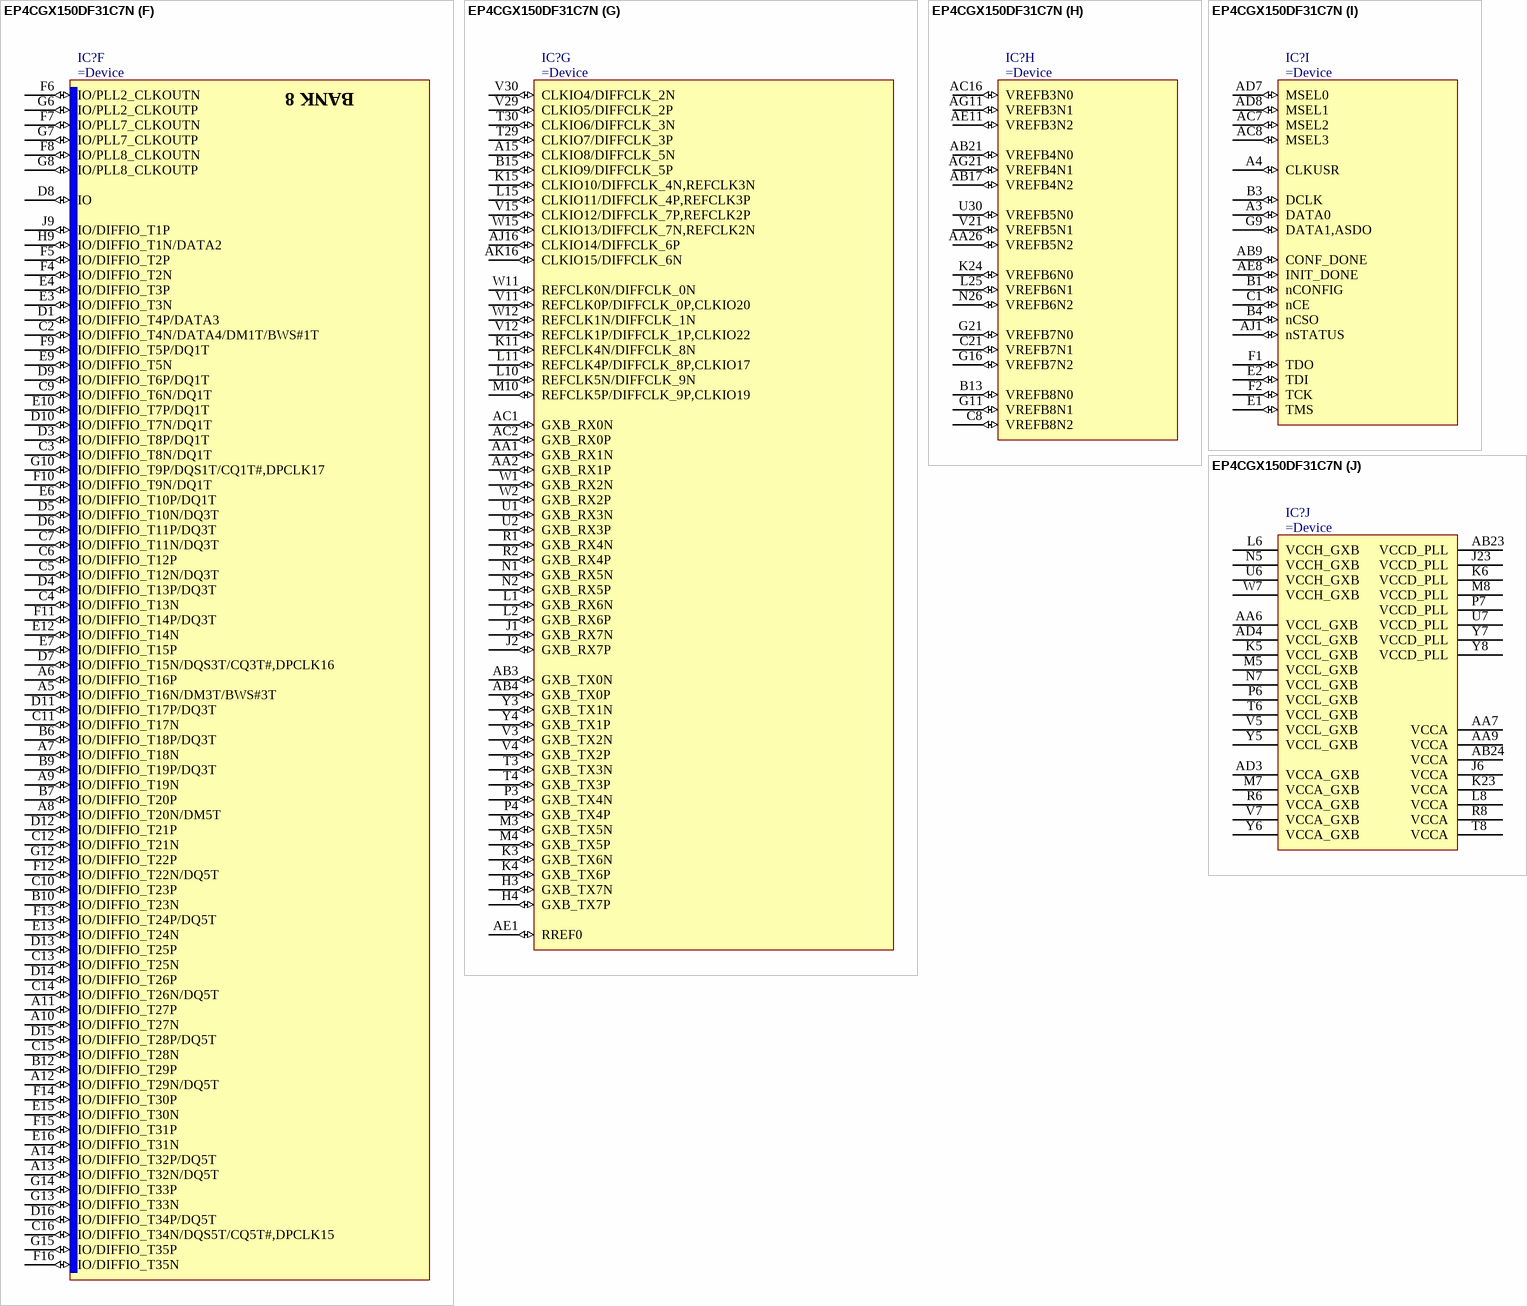
[diagram p68: symbol EP4CGX150DF31C7N]

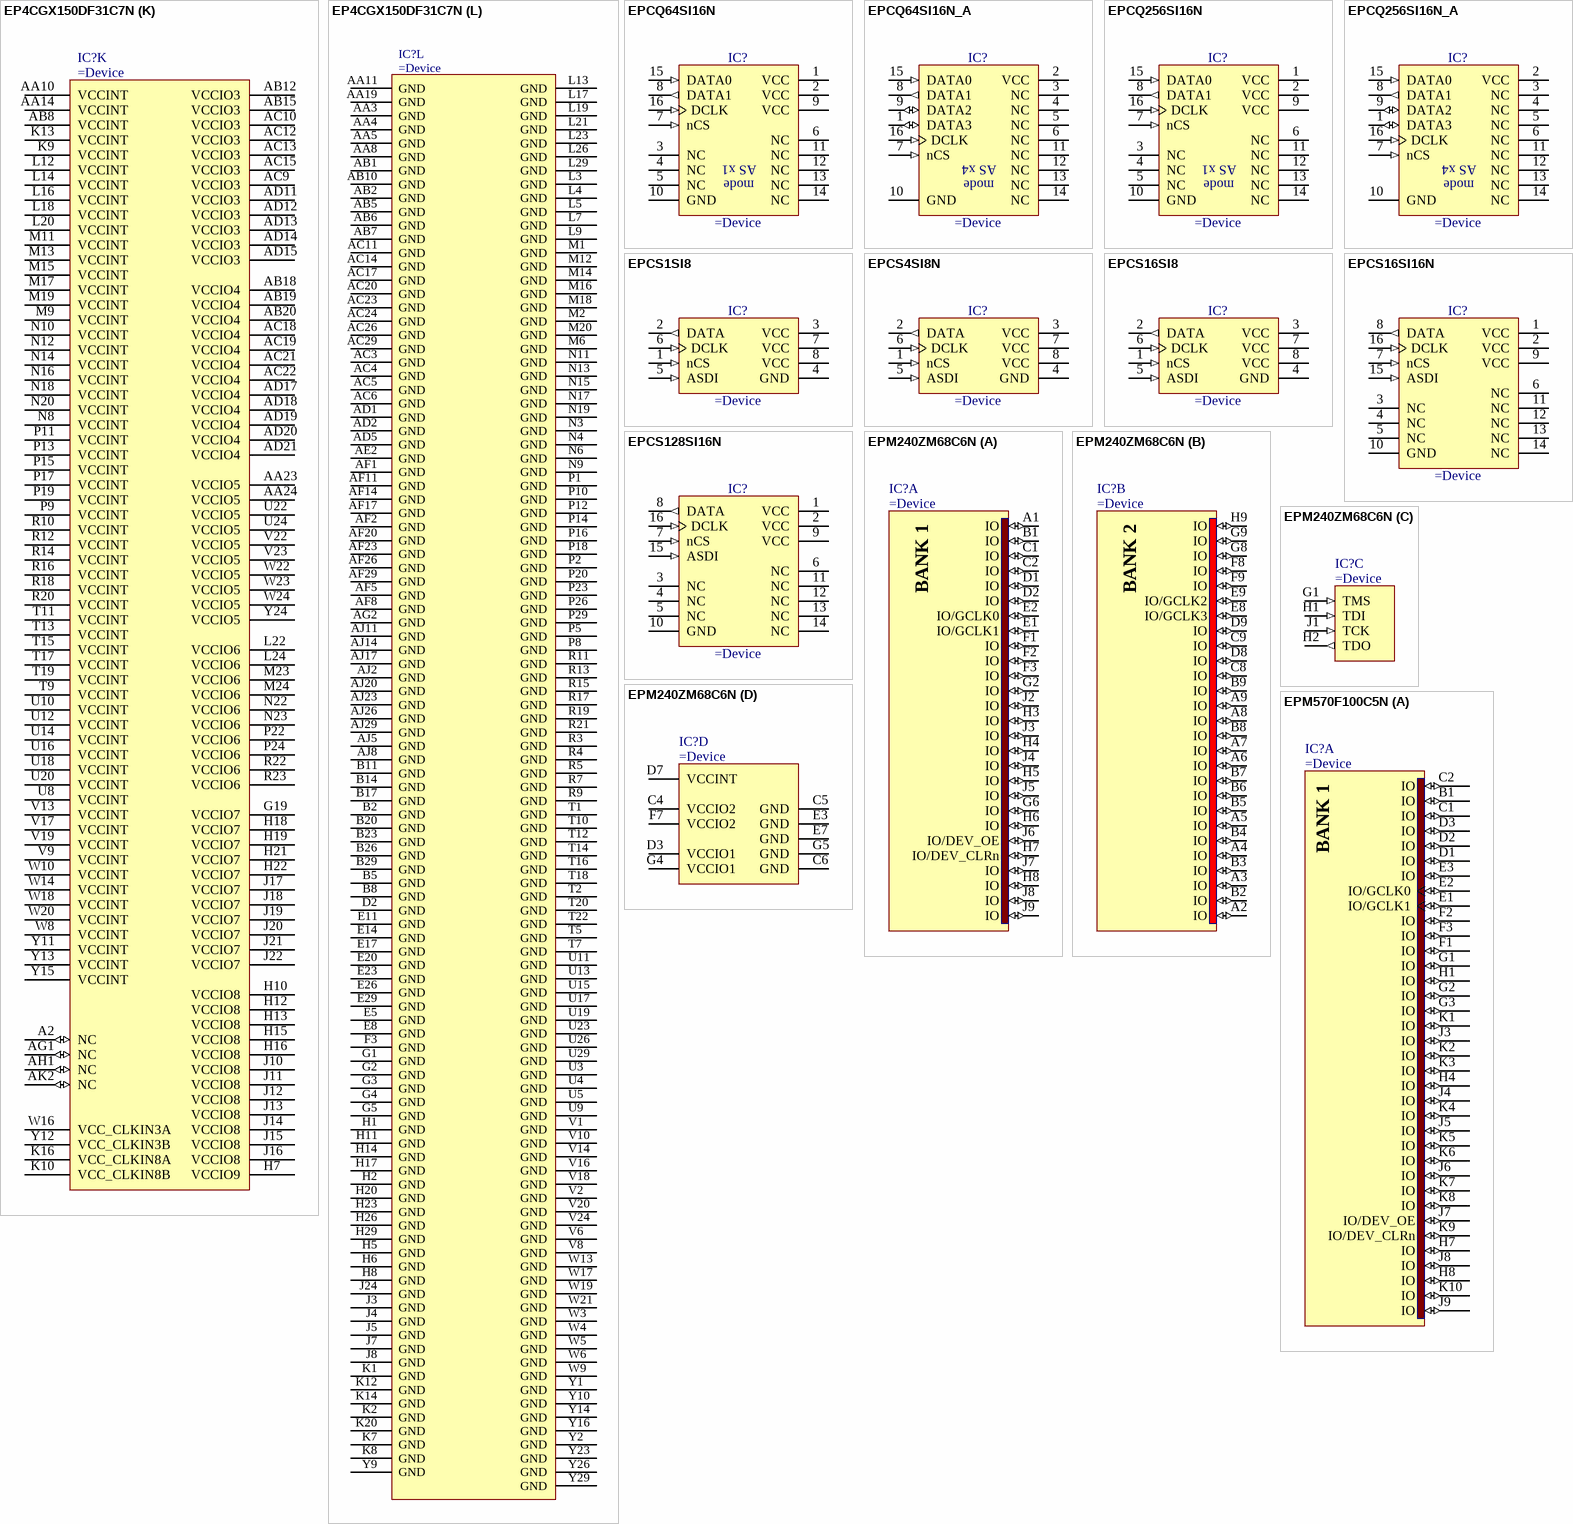
[diagram p69: symbols EP4CGX150DF31C7N to EPM570F100C5N]